# Altium integrated library adafruit.Library.IntLib: 666 symbols (part 1 of 6)
Pins are listed as number, name and electrical type; pins without a type are passive.

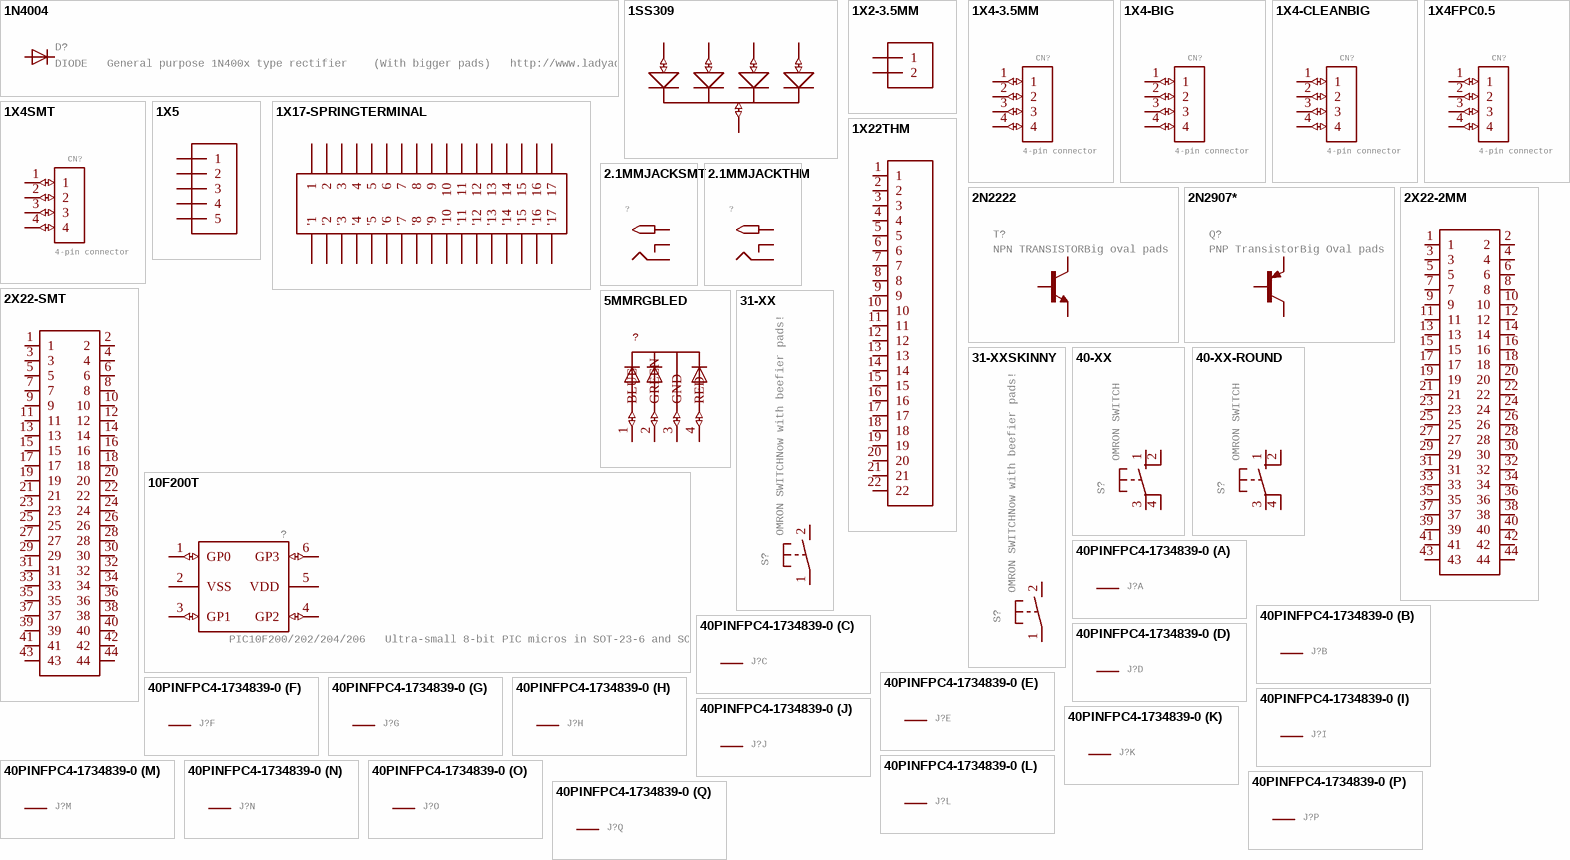
[diagram p0: symbols 1N4004 to 40PINFPC4-1734839-0]

## 1N4004
designator D?, comment DIODE   General purpose 1N400x type rectifier    (With bigger pads)   http://www.ladyada.net/library/pcb/eaglelibrary.html
GateName_1: 1; SymbolName_1: D; DeviceSetName: 1N4004; LibraryName: adafruit; Package: DO41-10
footprint DO41-10
pins: A, C

## 1SS309
designator D?
GateName_1: G$1; SymbolName_1: 1SS309; LibraryName: adafruit; DeviceSetName: 1SS309; Package: SOT23-5L
footprint SOT23-5L
pins: 1 A1 (io), 2 C (io), 3 A2 (io), 4 A3 (io), 5 A4 (io)

## 1X2-3.5MM
designator J?, comment 3.5mm Terminal block    http://www.ladyada.net/library/pcb/eaglelibrary.html  (value not drawn)
GateName_1: G$1; SymbolName_1: 1X2; DeviceName: -3.5MM; LibraryName: adafruit; DeviceSetName: 1X2; Package: 1X2-3.5MM
footprint 1X2-3.5MM
pins: 1, 2

## 1X4-3.5MM
designator CN?, comment 4-pin connector
GateName_1: G$1; SymbolName_1: 1X4; DeviceName: -3.5MM; LibraryName: adafruit; DeviceSetName: 1X4; Package: 1X04-3.5MM
footprint 1X04-3.5MM
pins: 1 (io), 2 (io), 3 (io), 4 (io)

## 1X4-BIG
designator CN?, comment 4-pin connector
GateName_1: G$1; SymbolName_1: 1X4; DeviceName: -BIG; LibraryName: adafruit; DeviceSetName: 1X4; Package: 1X04-BIG
footprint 1X04-BIG
pins: 1 (io), 2 (io), 3 (io), 4 (io)

## 1X4-CLEANBIG
designator CN?, comment 4-pin connector
GateName_1: G$1; SymbolName_1: 1X4; DeviceName: -CLEANBIG; LibraryName: adafruit; DeviceSetName: 1X4; Package: 1X04-CLEANBIG
footprint 1X04-CLEANBIG
pins: 1 (io), 2 (io), 3 (io), 4 (io)

## 1X4FPC0.5
designator CN?, comment 4-pin connector
GateName_1: G$1; SymbolName_1: 1X4; DeviceName: FPC0.5; LibraryName: adafruit; DeviceSetName: 1X4; Package: FPC_0.5MM-4
footprint FPC_0.5MM-4
pins: 1 (io), 2 (io), 3 (io), 4 (io)

## 1X4SMT
designator CN?, comment 4-pin connector
GateName_1: G$1; SymbolName_1: 1X4; DeviceName: SMT; LibraryName: adafruit; DeviceSetName: 1X4; Package: 1X4-SMT
footprint 1X4-SMT
pins: 1 (io), 2 (io), 3 (io), 4 (io)

## 1X5
designator J?
GateName_1: G$1; SymbolName_1: 1X5; LibraryName: adafruit; DeviceSetName: 1X5; Package: 1X05-3.5MM
footprint 1X05-3.5MM
pins: 1, 2, 3, 4, 5

## 1X17-SPRINGTERMINAL
designator Q?
GateName_1: G$1; SymbolName_1: SPRINGTERMININAL-1X17; DeviceSetName: 1X17-SPRINGTERMINAL; LibraryName: adafruit; Package: SPRINGTERMINAL-17
footprint SPRINGTERMINAL-17
pins: 1, 1' '1, 2, 2' '2, 3, 3' '3, 4, 4' '4, 5, 5' '5, 6, 6' '6, 7, 7' '7, 8, 8' '8, 9, 9' '9, 10, 10' '10, 11, 11' '11, 12, 12' '12, 13, 13' '13, 14, 14' '14, 15, 15' '15, 16, 16' '16, 17, 17' '17

## 1X22THM
designator ?
GateName_1: G$1; SymbolName_1: 1X22; DeviceName: THM; LibraryName: adafruit; DeviceSetName: 1X22; Package: 1X22
footprint 1X22
pins: 1 (io), 2 (io), 3 (io), 4 (io), 5 (io), 6 (io), 7 (io), 8 (io), 9 (io), 10 (io), 11 (io), 12 (io), 13 (io), 14 (io), 15 (io), 16 (io), 17 (io), 18 (io), 19 (io), 20 (io), 21 (io), 22 (io)

## 2.1MMJACKSMT
designator ?, comment 2.1mm x 5.5mm THM DC jack with internal switch. Digikey part #PJ-102A, 4UCON part #05537  2.1mm x 5.5mm SMT DC jack with internal switch. Digikey part #PJ-002A-SMT, 4UCON part #03267    By microbuilder.eu & adafruit.com  (value not drawn)
GateName_1: G$1; SymbolName_1: POWERJACK-1; DeviceSetName: 2.1MMJACK; DeviceName: SMT; LibraryName: adafruit; Package: DCJACK_2MM_SMT
footprint DCJACK_2MM_SMT
pins: GND RING (io), GNDBREAK RING_SW (io), PWR2 TIP (io)

## 2.1MMJACKTHM
designator ?, comment 2.1mm x 5.5mm THM DC jack with internal switch. Digikey part #PJ-102A, 4UCON part #05537  2.1mm x 5.5mm SMT DC jack with internal switch. Digikey part #PJ-002A-SMT, 4UCON part #03267    By microbuilder.eu & adafruit.com  (value not drawn)
GateName_1: G$1; SymbolName_1: POWERJACK-1; DeviceSetName: 2.1MMJACK; DeviceName: THM; LibraryName: adafruit; Package: PJ-102A
footprint PJ-102A
pins: RING (io), RING_SW (io), TIP (io)

## 2N2222
designator T?, comment NPN TRANSISTORBig oval pads
GateName_1: G$1; DeviceSetName: 2N2222; SymbolName_1: NPN; LibraryName: adafruit; Package: TO92-EBC-OVAL
footprint TO92-EBC-OVAL
pins: B, C, E

## 2N2907*
designator Q?, comment PNP TransistorBig Oval pads
GateName_1: G$1; DeviceSetName: 2N2907*; SymbolName_1: PNP; LibraryName: adafruit; Package: TO92-EBC-OVAL
footprint TO92-EBC-OVAL
pins: B, C, E

## 2X22-2MM
designator ?
GateName_1: G$1; SymbolName_1: 2X22; DeviceName: -2MM; LibraryName: adafruit; DeviceSetName: 2X22; Package: 2X22
footprint 2X22
pins: 1 (io), 2 (io), 3 (io), 4 (io), 5 (io), 6 (io), 7 (io), 8 (io), 9 (io), 10 (io), 11 (io), 12 (io), 13 (io), 14 (io), 15 (io), 16 (io), 17 (io), 18 (io), 19 (io), 20 (io), 21 (io), 22 (io), 23 (io), 24 (io), 25 (io), 26 (io), 27 (io), 28 (io), 29 (io), 30 (io), 31 (io), 32 (io), 33 (io), 34 (io), 35 (io), 36 (io), 37 (io), 38 (io), 39 (io), 40 (io), 41 (io), 42 (io), 43 (io), 44 (io)

## 2X22-SMT
designator ?
GateName_1: G$1; SymbolName_1: 2X22; DeviceName: -SMT; LibraryName: adafruit; DeviceSetName: 2X22; Package: 2X22-SMT
footprint 2X22-SMT
pins: 1 (io), 2 (io), 3 (io), 4 (io), 5 (io), 6 (io), 7 (io), 8 (io), 9 (io), 10 (io), 11 (io), 12 (io), 13 (io), 14 (io), 15 (io), 16 (io), 17 (io), 18 (io), 19 (io), 20 (io), 21 (io), 22 (io), 23 (io), 24 (io), 25 (io), 26 (io), 27 (io), 28 (io), 29 (io), 30 (io), 31 (io), 32 (io), 33 (io), 34 (io), 35 (io), 36 (io), 37 (io), 38 (io), 39 (io), 40 (io), 41 (io), 42 (io), 43 (io), 44 (io)

## 5MMRGBLED
designator ?
GateName_1: G$1; SymbolName_1: RGBLED_CC; DeviceSetName: 5MMRGBLED; LibraryName: adafruit; Package: LED5MMRGB
footprint LED5MMRGB
pins: 1 BLUE (io), 2 GREEN (io), 3 GND (io), 4 RED (io)

## 10F200T
designator ?, comment PIC10F200/202/204/206   Ultra-small 8-bit PIC micros in SOT-23-6 and SOIC
GateName_1: G$1; SymbolName_1: 10F200T; LibraryName: adafruit; DeviceSetName: 10F200T; Package: SOT23-6
footprint SOT23-6
pins: 1 GP0 (io), 2 VSS (power), 3 GP1 (io), 4 GP2 (io), 5 VDD (power), 6 GP3 (io)

## 31-XX
designator S?, comment OMRON SWITCHNow with beefier pads!
GateName_1: 1; SymbolName_1: TS; DeviceSetName: 31-XX; LibraryName: adafruit; Package: B3F-31XX
footprint B3F-31XX
pins: 1 P, 2 S

## 31-XXSKINNY
designator S?, comment OMRON SWITCHNow with beefier pads!
GateName_1: 1; SymbolName_1: TS; DeviceName: SKINNY; DeviceSetName: 31-XX; LibraryName: adafruit; Package: B3F-31XX-SKINNIER
footprint B3F-31XX-SKINNIER
pins: 1 P, 2 S

## 40-XX
designator S?, comment OMRON SWITCH
MPN: B3F-4000; GateName_1: 1; SymbolName_1: TS2; DeviceSetName: 40-XX; MF: OMRON COMPONENTS USA; LibraryName: adafruit; Package: B3F-40XX; OC_FARNELL: 176434; OC_NEWARK: 36K3105
footprint B3F-40XX
pins: 1 S, 2 S1, 3 P, 4 P1

## 40-XX-ROUND
designator S?, comment OMRON SWITCH
GateName_1: 1; SymbolName_1: TS2; DeviceName: -ROUND; DeviceSetName: 40-XX; LibraryName: adafruit; Package: B3F-40XX-ROUND
footprint B3F-40XX-ROUND
pins: 1 S, 2 S1, 3 P, 4 P1

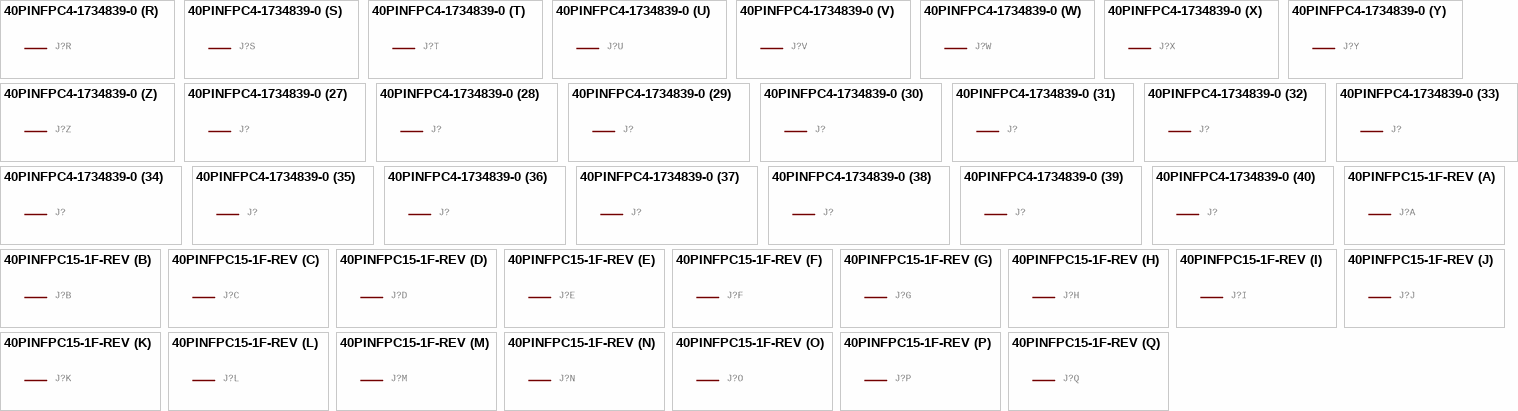
[diagram p1: symbols 40PINFPC4-1734839-0 to 40PINFPC15-1F-REV]

## 40PINFPC4-1734839-0
designator J?, comment OMRON FPC Connector   Source : http://www.omron.com/ecb/products/pdf/fpc.pdf    XF2M-4015-rev is good for connecting up 'PSP' SHARP LQ043 LCDs  (value not drawn)
GateName_1: -1; SymbolName_1: PV; GateName_2: -2; SymbolName_2: P; GateName_3: -3; GateName_4: -4; GateName_5: -5; GateName_6: -6; GateName_7: -7; GateName_8: -8; GateName_9: -9; GateName_10: -10; GateName_11: -11; GateName_12: -12; GateName_13: -13; GateName_14: -14; GateName_15: -15; GateName_16: -16; GateName_17: -17; GateName_18: -18; GateName_19: -19; GateName_20: -20; GateName_21: -21; GateName_22: -22; GateName_23: -23; GateName_24: -24; GateName_25: -25; GateName_26: -26; GateName_27: -27; GateName_28: -28; GateName_29: -29; GateName_30: -30; GateName_31: -31; GateName_32: -32; GateName_33: -33; GateName_34: -34; GateName_35: -35; GateName_36: -36; GateName_37: -37; GateName_38: -38; GateName_39: -39; GateName_40: -40; DeviceName: 4-1734839-0; DeviceSetName: 40PINFPC; SymbolName_3: P; SymbolName_4: P; SymbolName_5: P; SymbolName_6: P; SymbolName_7: P; SymbolName_8: P; SymbolName_9: P; SymbolName_10: P; SymbolName_11: P; SymbolName_12: P; SymbolName_13: P; SymbolName_14: P; SymbolName_15: P; SymbolName_16: P; SymbolName_17: P; SymbolName_18: P; SymbolName_19: P; SymbolName_20: P; SymbolName_21: P; SymbolName_22: P; SymbolName_23: P; SymbolName_24: P; SymbolName_25: P; SymbolName_26: P; SymbolName_27: P; SymbolName_28: P; SymbolName_29: P; SymbolName_30: P; SymbolName_31: P; SymbolName_32: P; SymbolName_33: P; SymbolName_34: P; SymbolName_35: P; SymbolName_36: P; SymbolName_37: P; SymbolName_38: P; SymbolName_39: P; SymbolName_40: P; LibraryName: adafruit; Package: 4-1734839-0
footprint 4-1734839-0
part A pins: 1 MSV
part B pins: 2 MS
part C pins: 3 MS
part D pins: 4 MS
part E pins: 5 MS
part F pins: 6 MS
part G pins: 7 MS
part H pins: 8 MS
part I pins: 9 MS
part J pins: 10 MS
part K pins: 11 MS
part L pins: 12 MS
part M pins: 13 MS
part N pins: 14 MS
part O pins: 15 MS
part P pins: 16 MS
part Q pins: 17 MS
part R pins: 18 MS
part S pins: 19 MS
part T pins: 20 MS
part U pins: 21 MS
part V pins: 22 MS
part W pins: 23 MS
part X pins: 24 MS
part Y pins: 25 MS
part Z pins: 26 MS
part 27 pins: 27 MS
part 28 pins: 28 MS
part 29 pins: 29 MS
part 30 pins: 30 MS
part 31 pins: 31 MS
part 32 pins: 32 MS
part 33 pins: 33 MS
part 34 pins: 34 MS
part 35 pins: 35 MS
part 36 pins: 36 MS
part 37 pins: 37 MS
part 38 pins: 38 MS
part 39 pins: 39 MS
part 40 pins: 40 MS

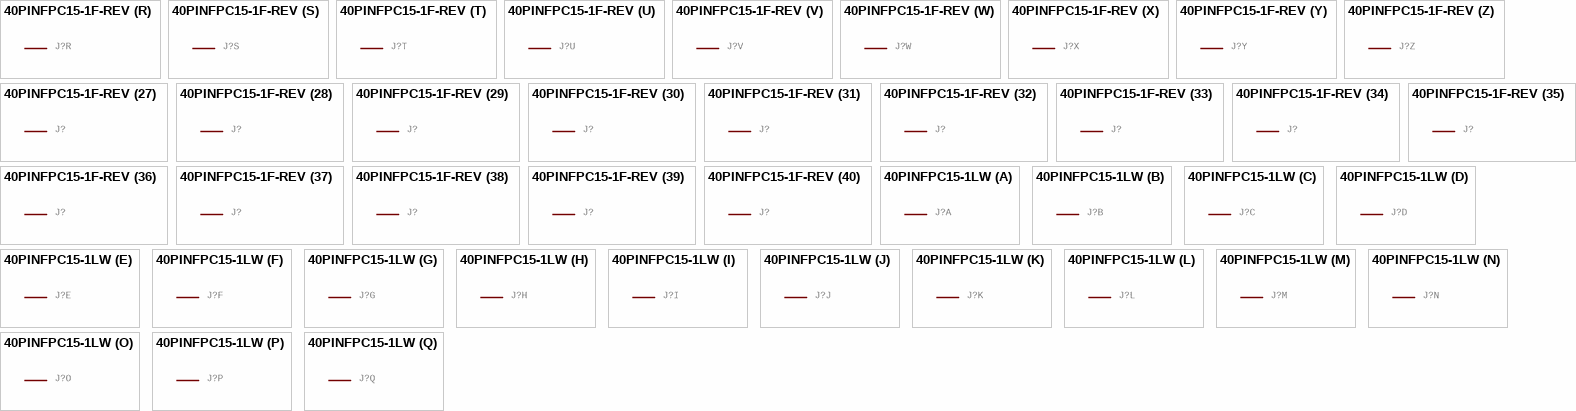
[diagram p2: symbols 40PINFPC15-1F-REV to 40PINFPC15-1LW]

## 40PINFPC15-1F-REV
designator J?, comment OMRON FPC Connector   Source : http://www.omron.com/ecb/products/pdf/fpc.pdf    XF2M-4015-rev is good for connecting up 'PSP' SHARP LQ043 LCDs  (value not drawn)
GateName_1: -1; SymbolName_1: PV; GateName_2: -2; SymbolName_2: P; GateName_3: -3; GateName_4: -4; GateName_5: -5; GateName_6: -6; GateName_7: -7; GateName_8: -8; GateName_9: -9; GateName_10: -10; GateName_11: -11; GateName_12: -12; GateName_13: -13; GateName_14: -14; GateName_15: -15; GateName_16: -16; GateName_17: -17; GateName_18: -18; GateName_19: -19; GateName_20: -20; GateName_21: -21; GateName_22: -22; GateName_23: -23; GateName_24: -24; GateName_25: -25; GateName_26: -26; GateName_27: -27; GateName_28: -28; GateName_29: -29; GateName_30: -30; GateName_31: -31; GateName_32: -32; GateName_33: -33; GateName_34: -34; GateName_35: -35; GateName_36: -36; GateName_37: -37; GateName_38: -38; GateName_39: -39; GateName_40: -40; DeviceName: 15-1F-REV; DeviceSetName: 40PINFPC; SymbolName_3: P; SymbolName_4: P; SymbolName_5: P; SymbolName_6: P; SymbolName_7: P; SymbolName_8: P; SymbolName_9: P; SymbolName_10: P; SymbolName_11: P; SymbolName_12: P; SymbolName_13: P; SymbolName_14: P; SymbolName_15: P; SymbolName_16: P; SymbolName_17: P; SymbolName_18: P; SymbolName_19: P; SymbolName_20: P; SymbolName_21: P; SymbolName_22: P; SymbolName_23: P; SymbolName_24: P; SymbolName_25: P; SymbolName_26: P; SymbolName_27: P; SymbolName_28: P; SymbolName_29: P; SymbolName_30: P; SymbolName_31: P; SymbolName_32: P; SymbolName_33: P; SymbolName_34: P; SymbolName_35: P; SymbolName_36: P; SymbolName_37: P; SymbolName_38: P; SymbolName_39: P; SymbolName_40: P; LibraryName: adafruit; Package: XF2M-4015-1F-REVERSE
footprint XF2M-4015-1F-REVERSE
part A pins: 1 MSV
part B pins: 2 MS
part C pins: 3 MS
part D pins: 4 MS
part E pins: 5 MS
part F pins: 6 MS
part G pins: 7 MS
part H pins: 8 MS
part I pins: 9 MS
part J pins: 10 MS
part K pins: 11 MS
part L pins: 12 MS
part M pins: 13 MS
part N pins: 14 MS
part O pins: 15 MS
part P pins: 16 MS
part Q pins: 17 MS
part R pins: 18 MS
part S pins: 19 MS
part T pins: 20 MS
part U pins: 21 MS
part V pins: 22 MS
part W pins: 23 MS
part X pins: 24 MS
part Y pins: 25 MS
part Z pins: 26 MS
part 27 pins: 27 MS
part 28 pins: 28 MS
part 29 pins: 29 MS
part 30 pins: 30 MS
part 31 pins: 31 MS
part 32 pins: 32 MS
part 33 pins: 33 MS
part 34 pins: 34 MS
part 35 pins: 35 MS
part 36 pins: 36 MS
part 37 pins: 37 MS
part 38 pins: 38 MS
part 39 pins: 39 MS
part 40 pins: 40 MS

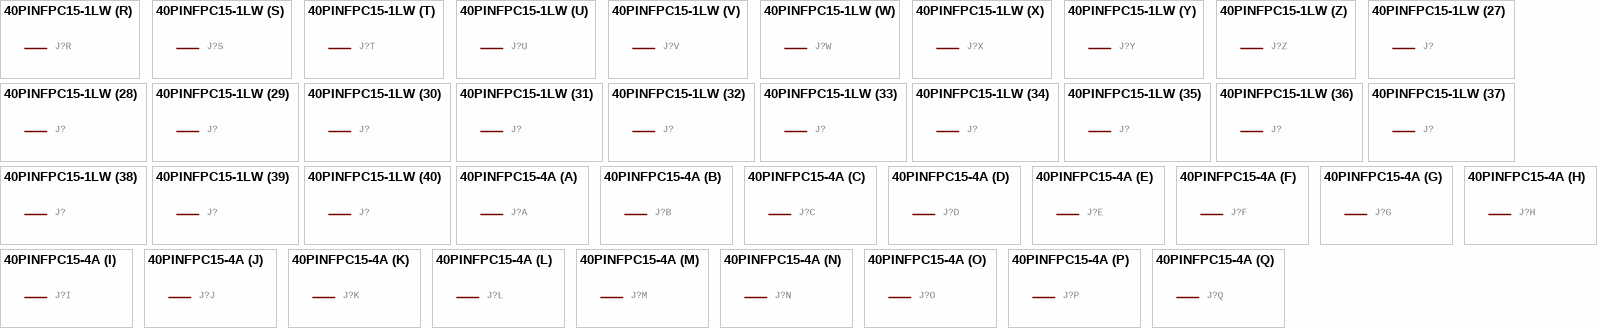
[diagram p3: symbols 40PINFPC15-1LW to 40PINFPC15-4A]

## 40PINFPC15-1LW
designator J?, comment OMRON FPC Connector   Source : http://www.omron.com/ecb/products/pdf/fpc.pdf    XF2M-4015-rev is good for connecting up 'PSP' SHARP LQ043 LCDs  (value not drawn)
GateName_1: -1; SymbolName_1: PV; GateName_2: -2; SymbolName_2: P; GateName_3: -3; GateName_4: -4; GateName_5: -5; GateName_6: -6; GateName_7: -7; GateName_8: -8; GateName_9: -9; GateName_10: -10; GateName_11: -11; GateName_12: -12; GateName_13: -13; GateName_14: -14; GateName_15: -15; GateName_16: -16; GateName_17: -17; GateName_18: -18; GateName_19: -19; GateName_20: -20; GateName_21: -21; GateName_22: -22; GateName_23: -23; GateName_24: -24; GateName_25: -25; GateName_26: -26; GateName_27: -27; GateName_28: -28; GateName_29: -29; GateName_30: -30; GateName_31: -31; GateName_32: -32; GateName_33: -33; GateName_34: -34; GateName_35: -35; GateName_36: -36; GateName_37: -37; GateName_38: -38; GateName_39: -39; GateName_40: -40; DeviceName: 15-1LW; DeviceSetName: 40PINFPC; SymbolName_3: P; SymbolName_4: P; SymbolName_5: P; SymbolName_6: P; SymbolName_7: P; SymbolName_8: P; SymbolName_9: P; SymbolName_10: P; SymbolName_11: P; SymbolName_12: P; SymbolName_13: P; SymbolName_14: P; SymbolName_15: P; SymbolName_16: P; SymbolName_17: P; SymbolName_18: P; SymbolName_19: P; SymbolName_20: P; SymbolName_21: P; SymbolName_22: P; SymbolName_23: P; SymbolName_24: P; SymbolName_25: P; SymbolName_26: P; SymbolName_27: P; SymbolName_28: P; SymbolName_29: P; SymbolName_30: P; SymbolName_31: P; SymbolName_32: P; SymbolName_33: P; SymbolName_34: P; SymbolName_35: P; SymbolName_36: P; SymbolName_37: P; SymbolName_38: P; SymbolName_39: P; SymbolName_40: P; LibraryName: adafruit; Package: XF2H-4015-1LW
footprint XF2H-4015-1LW
part A pins: 1 MSV
part B pins: 2 MS
part C pins: 3 MS
part D pins: 4 MS
part E pins: 5 MS
part F pins: 6 MS
part G pins: 7 MS
part H pins: 8 MS
part I pins: 9 MS
part J pins: 10 MS
part K pins: 11 MS
part L pins: 12 MS
part M pins: 13 MS
part N pins: 14 MS
part O pins: 15 MS
part P pins: 16 MS
part Q pins: 17 MS
part R pins: 18 MS
part S pins: 19 MS
part T pins: 20 MS
part U pins: 21 MS
part V pins: 22 MS
part W pins: 23 MS
part X pins: 24 MS
part Y pins: 25 MS
part Z pins: 26 MS
part 27 pins: 27 MS
part 28 pins: 28 MS
part 29 pins: 29 MS
part 30 pins: 30 MS
part 31 pins: 31 MS
part 32 pins: 32 MS
part 33 pins: 33 MS
part 34 pins: 34 MS
part 35 pins: 35 MS
part 36 pins: 36 MS
part 37 pins: 37 MS
part 38 pins: 38 MS
part 39 pins: 39 MS
part 40 pins: 40 MS

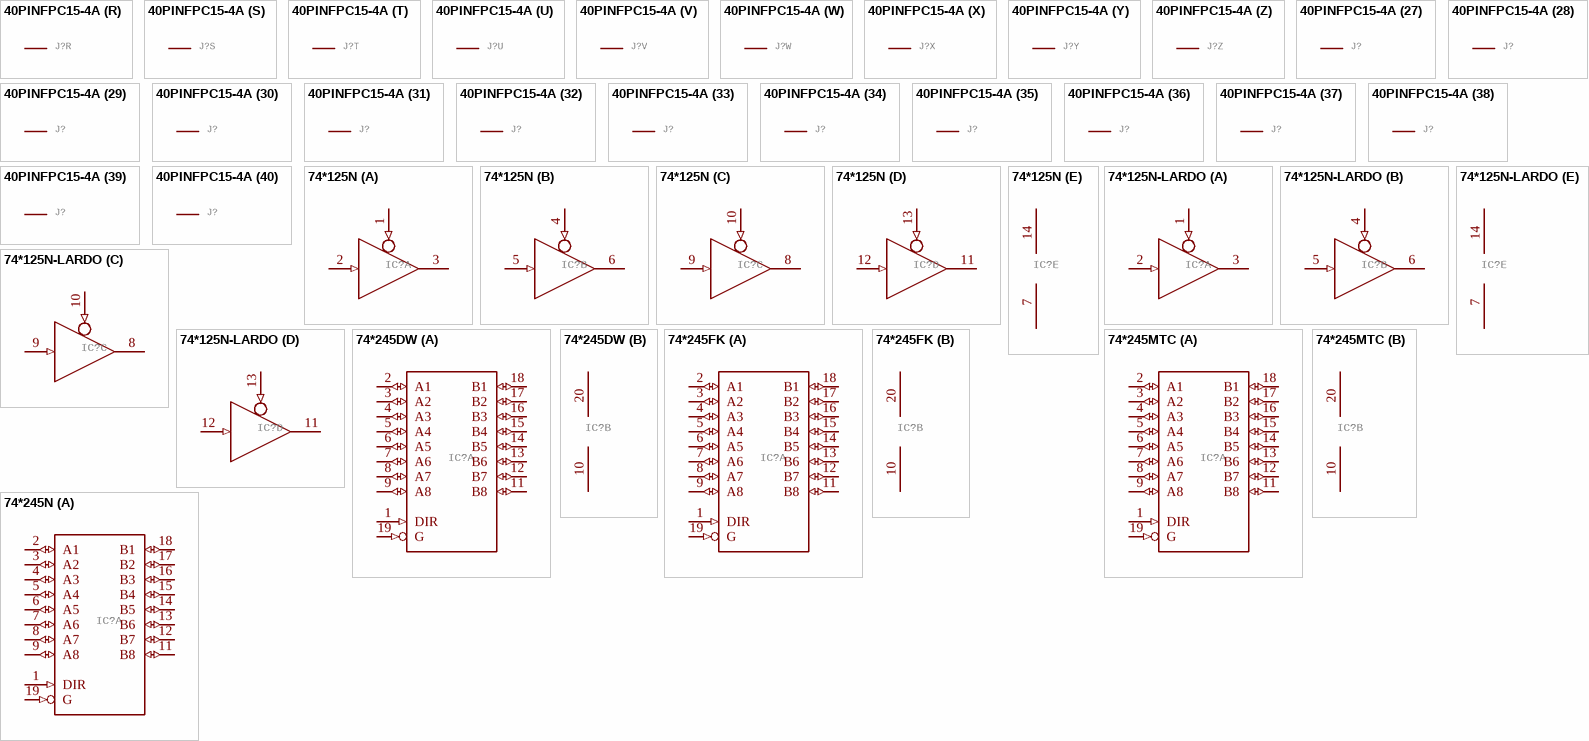
[diagram p4: symbols 40PINFPC15-4A to 74*245N]

## 40PINFPC15-4A
designator J?, comment OMRON FPC Connector   Source : http://www.omron.com/ecb/products/pdf/fpc.pdf    XF2M-4015-rev is good for connecting up 'PSP' SHARP LQ043 LCDs  (value not drawn)
GateName_1: -1; SymbolName_1: PV; GateName_2: -2; SymbolName_2: P; GateName_3: -3; GateName_4: -4; GateName_5: -5; GateName_6: -6; GateName_7: -7; GateName_8: -8; GateName_9: -9; GateName_10: -10; GateName_11: -11; GateName_12: -12; GateName_13: -13; GateName_14: -14; GateName_15: -15; GateName_16: -16; GateName_17: -17; GateName_18: -18; GateName_19: -19; GateName_20: -20; GateName_21: -21; GateName_22: -22; GateName_23: -23; GateName_24: -24; GateName_25: -25; GateName_26: -26; GateName_27: -27; GateName_28: -28; GateName_29: -29; GateName_30: -30; GateName_31: -31; GateName_32: -32; GateName_33: -33; GateName_34: -34; GateName_35: -35; GateName_36: -36; GateName_37: -37; GateName_38: -38; GateName_39: -39; GateName_40: -40; DeviceName: 15-4A; DeviceSetName: 40PINFPC; SymbolName_3: P; SymbolName_4: P; SymbolName_5: P; SymbolName_6: P; SymbolName_7: P; SymbolName_8: P; SymbolName_9: P; SymbolName_10: P; SymbolName_11: P; SymbolName_12: P; SymbolName_13: P; SymbolName_14: P; SymbolName_15: P; SymbolName_16: P; SymbolName_17: P; SymbolName_18: P; SymbolName_19: P; SymbolName_20: P; SymbolName_21: P; SymbolName_22: P; SymbolName_23: P; SymbolName_24: P; SymbolName_25: P; SymbolName_26: P; SymbolName_27: P; SymbolName_28: P; SymbolName_29: P; SymbolName_30: P; SymbolName_31: P; SymbolName_32: P; SymbolName_33: P; SymbolName_34: P; SymbolName_35: P; SymbolName_36: P; SymbolName_37: P; SymbolName_38: P; SymbolName_39: P; SymbolName_40: P; LibraryName: adafruit; Package: XF2R-4015-4A
footprint XF2R-4015-4A
part A pins: 1 MSV
part B pins: 2 MS
part C pins: 3 MS
part D pins: 4 MS
part E pins: 5 MS
part F pins: 6 MS
part G pins: 7 MS
part H pins: 8 MS
part I pins: 9 MS
part J pins: 10 MS
part K pins: 11 MS
part L pins: 12 MS
part M pins: 13 MS
part N pins: 14 MS
part O pins: 15 MS
part P pins: 16 MS
part Q pins: 17 MS
part R pins: 18 MS
part S pins: 19 MS
part T pins: 20 MS
part U pins: 21 MS
part V pins: 22 MS
part W pins: 23 MS
part X pins: 24 MS
part Y pins: 25 MS
part Z pins: 26 MS
part 27 pins: 27 MS
part 28 pins: 28 MS
part 29 pins: 29 MS
part 30 pins: 30 MS
part 31 pins: 31 MS
part 32 pins: 32 MS
part 33 pins: 33 MS
part 34 pins: 34 MS
part 35 pins: 35 MS
part 36 pins: 36 MS
part 37 pins: 37 MS
part 38 pins: 38 MS
part 39 pins: 39 MS
part 40 pins: 40 MS

## 74*125N
designator IC?, comment Quad bus BUFFER, 3-state  (value not drawn)
GateName_1: A; SymbolName_1: 74125; GateName_2: B; GateName_3: C; GateName_4: D; GateName_5: P; SymbolName_5: PWRN; DeviceName: N; DeviceSetName: 74*125; SymbolName_2: 74125; SymbolName_3: 74125; SymbolName_4: 74125; LibraryName: adafruit; Package: DIL14
footprint DIL14
part A pins: 1 OE (in), 2 I (in), 3 O (hiz)
part B pins: 4 OE (in), 5 I (in), 6 O (hiz)
part C pins: 8 O (hiz), 9 I (in), 10 OE (in)
part D pins: 11 O (hiz), 12 I (in), 13 OE (in)
part E pins: 7 GND (power), 14 VCC (power)

## 74*125N-LARDO
designator IC?, comment Quad bus BUFFER, 3-state  (value not drawn)
GateName_1: A; SymbolName_1: 74125; GateName_2: B; GateName_3: C; GateName_4: D; GateName_5: P; SymbolName_5: PWRN; DeviceName: N-LARDO; DeviceSetName: 74*125; SymbolName_2: 74125; SymbolName_3: 74125; SymbolName_4: 74125; LibraryName: adafruit; Package: DIL14-LARDO
footprint DIL14-LARDO
part A pins: 1 OE (in), 2 I (in), 3 O (hiz)
part B pins: 4 OE (in), 5 I (in), 6 O (hiz)
part C pins: 8 O (hiz), 9 I (in), 10 OE (in)
part D pins: 11 O (hiz), 12 I (in), 13 OE (in)
part E pins: 7 GND (power), 14 VCC (power)

## 74*245DW
designator IC?, comment Octal BUS TRANSCEIVER, 3-state  (value not drawn)
GateName_1: A; SymbolName_1: 74245; GateName_2: P; SymbolName_2: PWRN; DeviceName: DW; DeviceSetName: 74*245; LibraryName: adafruit; Package: SO20W
footprint SO20W
part A pins: 1 DIR (in), 2 A1 (io), 3 A2 (io), 4 A3 (io), 5 A4 (io), 6 A5 (io), 7 A6 (io), 8 A7 (io), 9 A8 (io), 11 B8 (io), 12 B7 (io), 13 B6 (io), 14 B5 (io), 15 B4 (io), 16 B3 (io), 17 B2 (io), 18 B1 (io), 19 G (in)
part B pins: 10 GND (power), 20 VCC (power)

## 74*245FK
designator IC?, comment Octal BUS TRANSCEIVER, 3-state  (value not drawn)
GateName_1: A; SymbolName_1: 74245; GateName_2: P; SymbolName_2: PWRN; DeviceName: FK; DeviceSetName: 74*245; LibraryName: adafruit; Package: LCC20
footprint LCC20
part A pins: 1 DIR (in), 2 A1 (io), 3 A2 (io), 4 A3 (io), 5 A4 (io), 6 A5 (io), 7 A6 (io), 8 A7 (io), 9 A8 (io), 11 B8 (io), 12 B7 (io), 13 B6 (io), 14 B5 (io), 15 B4 (io), 16 B3 (io), 17 B2 (io), 18 B1 (io), 19 G (in)
part B pins: 10 GND (power), 20 VCC (power)

## 74*245MTC
designator IC?, comment Octal BUS TRANSCEIVER, 3-state  (value not drawn)
GateName_1: A; SymbolName_1: 74245; GateName_2: P; SymbolName_2: PWRN; DeviceName: MTC; DeviceSetName: 74*245; LibraryName: adafruit; Package: SSOP20
footprint SSOP20
part A pins: 1 DIR (in), 2 A1 (io), 3 A2 (io), 4 A3 (io), 5 A4 (io), 6 A5 (io), 7 A6 (io), 8 A7 (io), 9 A8 (io), 11 B8 (io), 12 B7 (io), 13 B6 (io), 14 B5 (io), 15 B4 (io), 16 B3 (io), 17 B2 (io), 18 B1 (io), 19 G (in)
part B pins: 10 GND (power), 20 VCC (power)

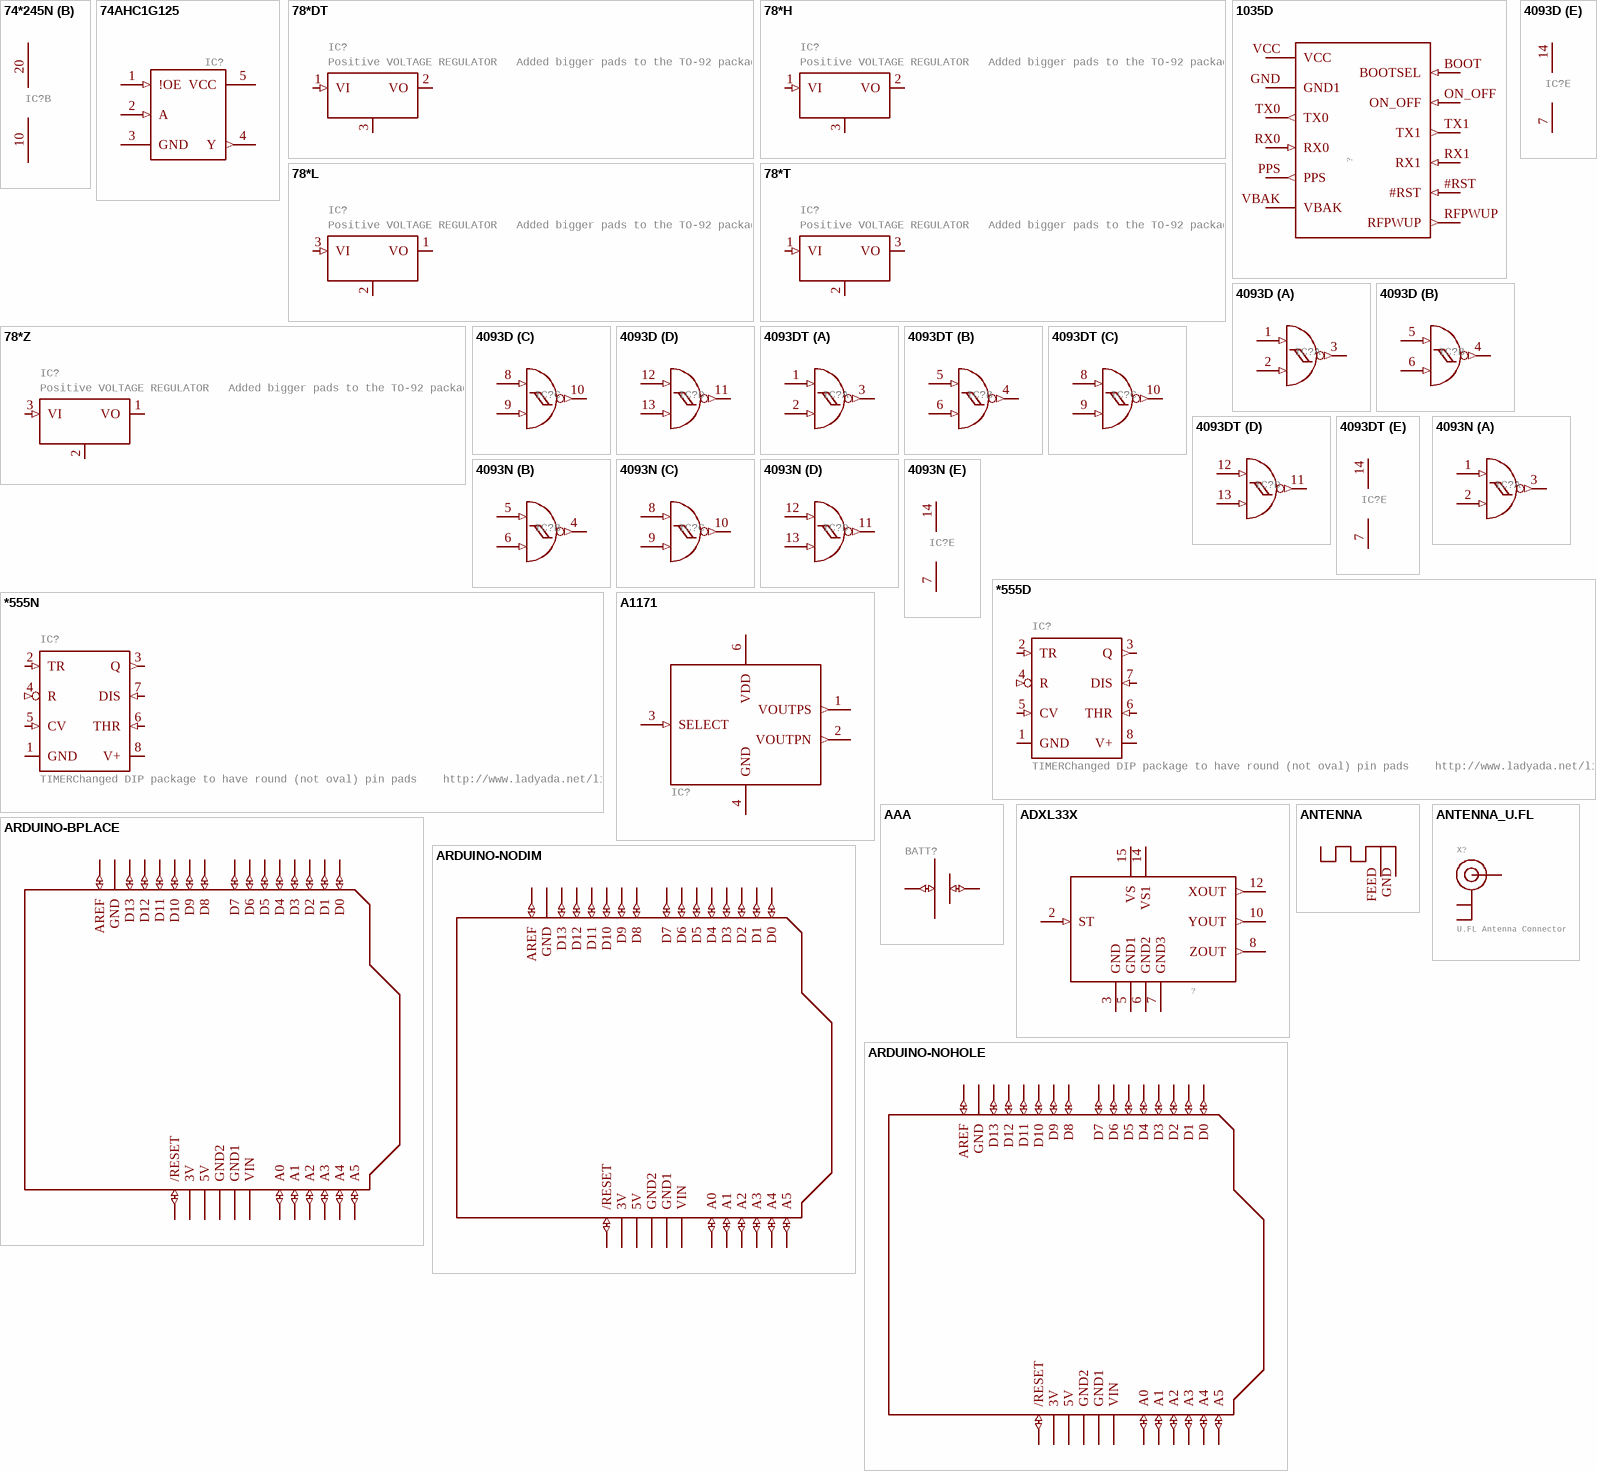
[diagram p5: symbols 74*245N to ARDUINO-NOHOLE]

## 74*245N
designator IC?, comment Octal BUS TRANSCEIVER, 3-state  (value not drawn)
GateName_1: A; SymbolName_1: 74245; GateName_2: P; SymbolName_2: PWRN; DeviceName: N; DeviceSetName: 74*245; LibraryName: adafruit; Package: DIL20
footprint DIL20
part A pins: 1 DIR (in), 2 A1 (io), 3 A2 (io), 4 A3 (io), 5 A4 (io), 6 A5 (io), 7 A6 (io), 8 A7 (io), 9 A8 (io), 11 B8 (io), 12 B7 (io), 13 B6 (io), 14 B5 (io), 15 B4 (io), 16 B3 (io), 17 B2 (io), 18 B1 (io), 19 G (in)
part B pins: 10 GND (power), 20 VCC (power)

## 74AHC1G125
designator IC?
GateName_1: G$1; SymbolName_1: 74AHC1G125; LibraryName: adafruit; DeviceSetName: 74AHC1G125; Package: SOT23-5L
footprint SOT23-5L
pins: 1 !OE (in), 2 A (in), 3 GND (power), 4 Y (out), 5 VCC (power)

## 78*DT
designator IC?, comment Positive VOLTAGE REGULATOR   Added bigger pads to the TO-92 package
GateName_1: A1; SymbolName_1: 78XX; DeviceName: DT; DeviceSetName: 78*; LibraryName: adafruit; Package: TO252
footprint TO252
pins: 1 VI (in), 2 VO, 3 GND

## 78*H
designator IC?, comment Positive VOLTAGE REGULATOR   Added bigger pads to the TO-92 package
GateName_1: A1; SymbolName_1: 78XX; DeviceName: H; DeviceSetName: 78*; LibraryName: adafruit; Package: TO39
footprint TO39
pins: 1 VI (in), 2 VO, 3 GND

## 78*L
designator IC?, comment Positive VOLTAGE REGULATOR   Added bigger pads to the TO-92 package
GateName_1: A1; SymbolName_1: 78XX; DeviceName: L; DeviceSetName: 78*; LibraryName: adafruit; Package: TO92
footprint TO92
pins: 1 VO, 2 GND, 3 VI (in)

## 78*T
designator IC?, comment Positive VOLTAGE REGULATOR   Added bigger pads to the TO-92 package
GateName_1: A1; SymbolName_1: 78XX; DeviceName: T; DeviceSetName: 78*; LibraryName: adafruit; Package: TO220H
footprint TO220H
pins: 1 VI (in), 2 GND, 3 VO

## 78*Z
designator IC?, comment Positive VOLTAGE REGULATOR   Added bigger pads to the TO-92 package
GateName_1: A1; SymbolName_1: 78XX; DeviceName: Z; DeviceSetName: 78*; LibraryName: adafruit; Package: TO92
footprint TO92
pins: 1 VO, 2 GND, 3 VI (in)

## 1035D
designator ?
GateName_1: G$1; SymbolName_1: 1035D; LibraryName: adafruit; DeviceSetName: 1035D; Package: 1035D
footprint 1035D
pins: #RST (in), BOOT BOOTSEL (in), GND GND1 (power), ON_OFF (in), PPS (out), RFPWUP (out), RX0 (in), RX1 (in), TX0 (out), TX1 (out), VBAK (power), VCC (power)

## 4093D
designator IC?, comment Quad 2-input NAND schmitt trigger  (value not drawn)
GateName_1: A; SymbolName_1: 4093; GateName_2: B; GateName_3: C; GateName_4: D; GateName_5: P; SymbolName_5: PWRN-1; SymbolName_2: 4093; SymbolName_3: 4093; SymbolName_4: 4093; DeviceName: D; LibraryName: adafruit; DeviceSetName: 4093; Package: SO14
footprint SO14
part A pins: 1 I0 (in), 2 I1 (in), 3 O (out)
part B pins: 4 O (out), 5 I0 (in), 6 I1 (in)
part C pins: 8 I0 (in), 9 I1 (in), 10 O (out)
part D pins: 11 O (out), 12 I0 (in), 13 I1 (in)
part E pins: 7 VSS (power), 14 VDD (power)

## 4093DT
designator IC?, comment Quad 2-input NAND schmitt trigger  (value not drawn)
GateName_1: A; SymbolName_1: 4093; GateName_2: B; GateName_3: C; GateName_4: D; GateName_5: P; SymbolName_5: PWRN-1; DeviceName: DT; SymbolName_2: 4093; SymbolName_3: 4093; SymbolName_4: 4093; LibraryName: adafruit; DeviceSetName: 4093; Package: MC14093B-TSSOP14
footprint MC14093B-TSSOP14
part A pins: 1 I0 (in), 2 I1 (in), 3 O (out)
part B pins: 4 O (out), 5 I0 (in), 6 I1 (in)
part C pins: 8 I0 (in), 9 I1 (in), 10 O (out)
part D pins: 11 O (out), 12 I0 (in), 13 I1 (in)
part E pins: 7 VSS (power), 14 VDD (power)

## 4093N
designator IC?, comment Quad 2-input NAND schmitt trigger  (value not drawn)
GateName_1: A; SymbolName_1: 4093; GateName_2: B; GateName_3: C; GateName_4: D; GateName_5: P; SymbolName_5: PWRN-1; DeviceName: N; SymbolName_2: 4093; SymbolName_3: 4093; SymbolName_4: 4093; LibraryName: adafruit; DeviceSetName: 4093; Package: DIL14
footprint DIL14
part A pins: 1 I0 (in), 2 I1 (in), 3 O (out)
part B pins: 4 O (out), 5 I0 (in), 6 I1 (in)
part C pins: 8 I0 (in), 9 I1 (in), 10 O (out)
part D pins: 11 O (out), 12 I0 (in), 13 I1 (in)
part E pins: 7 VSS (power), 14 VDD (power)

## *555D
designator IC?, comment TIMERChanged DIP package to have round (not oval) pin pads    http://www.ladyada.net/library/pcb/eaglelibrary.html
GateName_1: A; SymbolName_1: 555; DeviceName: D; DeviceSetName: *555; LibraryName: adafruit; Package: SO08
footprint SO08
pins: 1 GND (power), 2 TR (in), 3 Q (out), 4 R (in), 5 CV (in), 6 THR (in), 7 DIS (in), 8 V+ (power)

## *555N
designator IC?, comment TIMERChanged DIP package to have round (not oval) pin pads    http://www.ladyada.net/library/pcb/eaglelibrary.html
GateName_1: A; SymbolName_1: 555; DeviceName: N; DeviceSetName: *555; LibraryName: adafruit; Package: DIL08-ROUND
footprint DIL08-ROUND
pins: 1 GND (power), 2 TR (in), 3 Q (out), 4 R (in), 5 CV (in), 6 THR (in), 7 DIS (in), 8 V+ (power)

## A1171
designator IC?, comment A1171 Allegro push-pull hall effect sensor  (value not drawn)
GateName_1: G$1; SymbolName_1: A1171; LibraryName: adafruit; DeviceSetName: A1171; Package: DFN-6
footprint DFN-6
pins: 1 VOUTPS (out), 2 VOUTPN (out), 3 SELECT (in), 4 GND (power), 6 VDD (power)

## AAA
designator BATT?, comment AAA PC pin holder   Mouser part #12BH412 - but pretty much any 1x AAA battery holder should be the same    http://www.ladyada.net/library/pcb/eaglelibrary.html  (value not drawn)
GateName_1: G$1; SymbolName_1: AAA; LibraryName: adafruit; DeviceSetName: AAA; Package: 12BH412
footprint 12BH412
pins: + (io), - (io)

## ADXL33X
designator ?
GateName_1: G$1; SymbolName_1: ADXL33X; LibraryName: adafruit; DeviceSetName: ADXL33X; Package: 16LCSP
footprint 16LCSP
pins: 2 ST (in), 3 GND (power), 5 GND1 (power), 6 GND2 (power), 7 GND3 (power), 8 ZOUT (out), 10 YOUT (out), 12 XOUT (out), 14 VS1 (power), 15 VS (power)

## ANTENNA
designator ANT?
GateName_1: G$1; SymbolName_1: ANT; DeviceSetName: ANTENNA; LibraryName: adafruit; Package: RN-ANT
footprint RN-ANT
pins: FEED, GND

## ANTENNA_U.FL
designator X?, comment U.FL Antenna Connector
GateName_1: G$1; DeviceSetName: ANTENNA_U.FL; SymbolName_1: U.FL; LibraryName: adafruit; Package: U.FL
footprint U.FL
pins: 1 GND@0, 2 GND@1, 3 SIGNAL

## ARDUINO-BPLACE
designator ?, comment Arduino Diecimila/Duemilanove   Make a shield with ease, this package has all the named pins as well as the two mounting drill holes and an outline of the USB and DC power connector. The outline is on the DIMENSION layer, so if your board house uses it they will cut the outline to match.    http://www.ladyada.net/library/pcb/eaglelibrary.html  (value not drawn)
GateName_1: G$1; DeviceName: -BPLACE; SymbolName_1: ARDUINO; LibraryName: adafruit; DeviceSetName: ARDUINO; Package: ARDUINO-BPLACE
footprint ARDUINO-BPLACE
pins: 3V (power), 5V (power), A0 (io), A1 (io), A2 (io), A3 (io), A4 (io), A5 (io), AREF (io), D0 (io), D1 (io), D2 (io), D3 (io), D4 (io), D5 (io), D6 (io), D7 (io), D8 (io), D9 (io), D10 (io), D11 (io), D12 (io), D13 (io), GND (power), GND1 (power), GND2 (power), RESET /RESET (io), VIN (power)

## ARDUINO-NODIM
designator ?, comment Arduino Diecimila/Duemilanove   Make a shield with ease, this package has all the named pins as well as the two mounting drill holes and an outline of the USB and DC power connector. The outline is on the DIMENSION layer, so if your board house uses it they will cut the outline to match.    http://www.ladyada.net/library/pcb/eaglelibrary.html  (value not drawn)
GateName_1: G$1; DeviceName: -NODIM; SymbolName_1: ARDUINO; LibraryName: adafruit; DeviceSetName: ARDUINO; Package: ARDUINO-NODIM
footprint ARDUINO-NODIM
pins: 3V (power), 5V (power), A0 (io), A1 (io), A2 (io), A3 (io), A4 (io), A5 (io), AREF (io), D0 (io), D1 (io), D2 (io), D3 (io), D4 (io), D5 (io), D6 (io), D7 (io), D8 (io), D9 (io), D10 (io), D11 (io), D12 (io), D13 (io), GND (power), GND1 (power), GND2 (power), RESET /RESET (io), VIN (power)

## ARDUINO-NOHOLE
designator ?, comment Arduino Diecimila/Duemilanove   Make a shield with ease, this package has all the named pins as well as the two mounting drill holes and an outline of the USB and DC power connector. The outline is on the DIMENSION layer, so if your board house uses it they will cut the outline to match.    http://www.ladyada.net/library/pcb/eaglelibrary.html  (value not drawn)
GateName_1: G$1; DeviceName: -NOHOLE; SymbolName_1: ARDUINO; LibraryName: adafruit; DeviceSetName: ARDUINO; Package: ARDUINO-NOHOLE
footprint ARDUINO-NOHOLE
pins: 3V (power), 5V (power), A0 (io), A1 (io), A2 (io), A3 (io), A4 (io), A5 (io), AREF (io), D0 (io), D1 (io), D2 (io), D3 (io), D4 (io), D5 (io), D6 (io), D7 (io), D8 (io), D9 (io), D10 (io), D11 (io), D12 (io), D13 (io), GND (power), GND1 (power), GND2 (power), RESET /RESET (io), VIN (power)

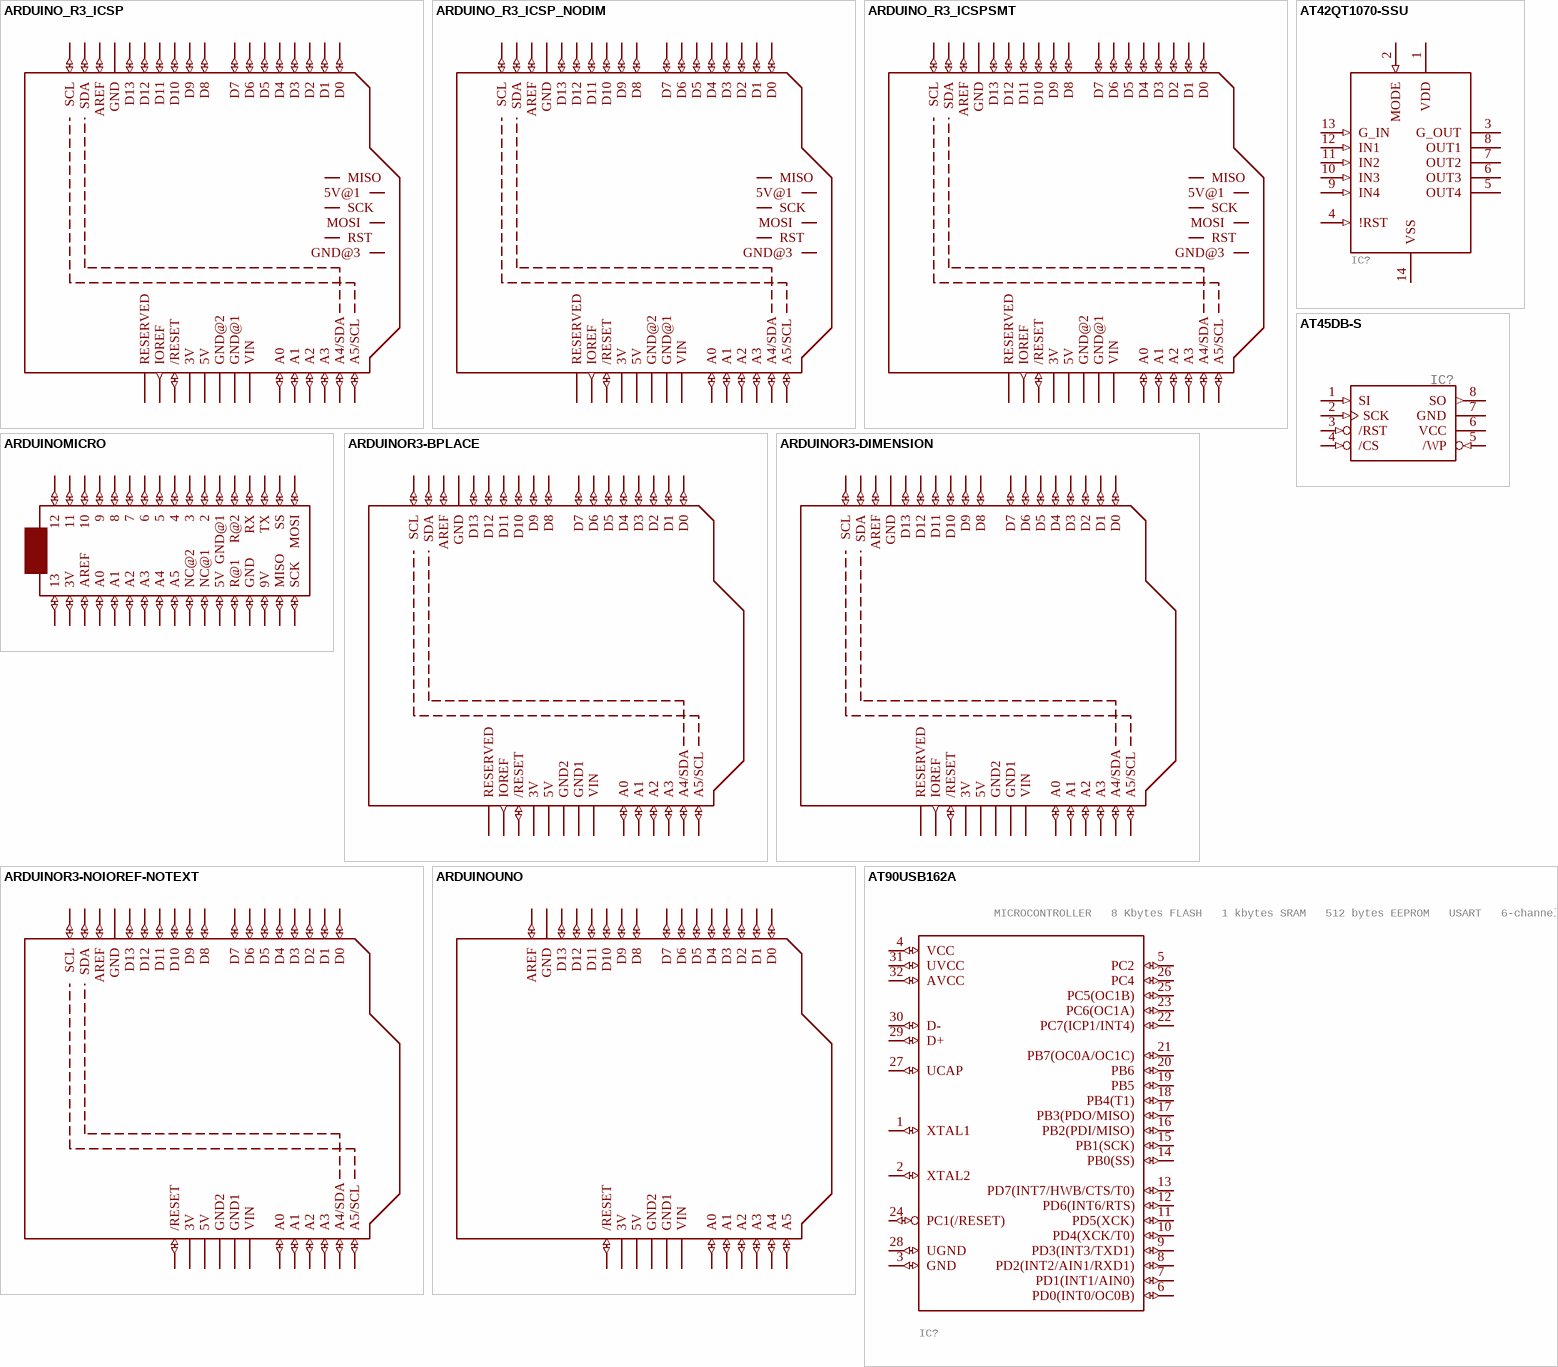
[diagram p6: symbols ARDUINO_R3_ICSP to AT90USB162A]

## ARDUINO_R3_ICSP
designator M?
GateName_1: G$1; SymbolName_1: ARDUINOR3-ICSP; DeviceSetName: ARDUINO_R3_ICSP; LibraryName: adafruit; Package: ARDUINOR3_ICSP
footprint ARDUINOR3_ICSP
pins: 3V (power), 5V (power), 5V_ICSP 5V@1, A0 (io), A1 (io), A2 (io), A3 (io), A4 A4/SDA (io), A5 A5/SCL (io), AREF (io), D0 (io), D1 (io), D2 (io), D3 (io), D4 (io), D5 (io), D6 (io), D7 (io), D8 (io), D9 (io), D10 (io), D11 (io), D12 (io), D13 (io), GND (power), GND@1 GND@2 (power), GND@2 GND@3, GND@3 GND@1 (power), IOREF (out), MISO, MOSI, RESERVED, RESET /RESET (io), RESET_ICSP RST, SCK, SCL (io), SDA (io), VIN (power)

## ARDUINO_R3_ICSP_NODIM
designator M?
GateName_1: G$1; SymbolName_1: ARDUINOR3-ICSP; DeviceName: _NODIM; DeviceSetName: ARDUINO_R3_ICSP; LibraryName: adafruit; Package: ARDUINOR3_ICSP_NODIM
footprint ARDUINOR3_ICSP_NODIM
pins: 3V (power), 5V (power), 5V_ICSP 5V@1, A0 (io), A1 (io), A2 (io), A3 (io), A4 A4/SDA (io), A5 A5/SCL (io), AREF (io), D0 (io), D1 (io), D2 (io), D3 (io), D4 (io), D5 (io), D6 (io), D7 (io), D8 (io), D9 (io), D10 (io), D11 (io), D12 (io), D13 (io), GND (power), GND@1 GND@2 (power), GND@2 GND@3, GND@3 GND@1 (power), IOREF (out), MISO, MOSI, RESERVED, RESET /RESET (io), RESET_ICSP RST, SCK, SCL (io), SDA (io), VIN (power)

## ARDUINO_R3_ICSPSMT
designator M?
GateName_1: G$1; SymbolName_1: ARDUINOR3-ICSP; DeviceName: SMT; DeviceSetName: ARDUINO_R3_ICSP; LibraryName: adafruit; Package: ARDUINOR3_ICSP_SMT
footprint ARDUINOR3_ICSP_SMT
pins: 3V (power), 5V (power), 5V_ICSP 5V@1, A0 (io), A1 (io), A2 (io), A3 (io), A4 A4/SDA (io), A5 A5/SCL (io), AREF (io), D0 (io), D1 (io), D2 (io), D3 (io), D4 (io), D5 (io), D6 (io), D7 (io), D8 (io), D9 (io), D10 (io), D11 (io), D12 (io), D13 (io), GND (power), GND@1 (power), GND@2 (power), GND@3, IOREF (out), MISO, MOSI, RESERVED, RESET /RESET (io), RESET_ICSP RST, SCK, SCL (io), SDA (io), VIN (power)

## ARDUINOMICRO
designator ?
GateName_1: G$1; SymbolName_1: ARDUINOMICRO; LibraryName: adafruit; DeviceSetName: ARDUINOMICRO; Package: ARDUINOMICRO
footprint ARDUINOMICRO
pins: P$1 12 (io), P$2 11 (io), P$3 10 (io), P$4 9 (io), P$5 8 (io), P$6 7 (io), P$7 6 (io), P$8 5 (io), P$9 4 (io), P$10 3 (io), P$11 2 (io), P$12 GND (io), P$13 R@1 (io), P$14 RX (io), P$15 TX (io), P$16 SS (io), P$17 MOSI (io), P$18 SCK (io), P$19 MISO (io), P$20 9V (io), P$21 GND@1 (io), P$22 R@2 (io), P$23 5V (io), P$24 NC@1 (io), P$25 NC@2 (io), P$26 A5 (io), P$27 A4 (io), P$28 A3 (io), P$29 A2 (io), P$30 A1 (io), P$31 A0 (io), P$32 AREF (io), P$33 3V (io), P$34 13 (io)

## ARDUINOR3-BPLACE
designator U?, comment This is a new object for the new Arduino R3 - with extra pins that you may want to use (such as IOref, and duplicated A4/A5  (value not drawn)
GateName_1: G$1; DeviceName: -BPLACE; SymbolName_1: ARDUINOR3; LibraryName: adafruit; DeviceSetName: ARDUINOR3; Package: ARDUINOR3-BPLACE
footprint ARDUINOR3-BPLACE
pins: 3V (power), 5V (power), A0 (io), A1 (io), A2 (io), A3 (io), A4 A4/SDA (io), A5 A5/SCL (io), AREF (io), D0 (io), D1 (io), D2 (io), D3 (io), D4 (io), D5 (io), D6 (io), D7 (io), D8 (io), D9 (io), D10 (io), D11 (io), D12 (io), D13 (io), GND (power), GND1 (power), GND2 (power), IOREF (out), RESERVED, RESET /RESET (io), SCL (io), SDA (io), VIN (power)

## ARDUINOR3-DIMENSION
designator U?, comment This is a new object for the new Arduino R3 - with extra pins that you may want to use (such as IOref, and duplicated A4/A5  (value not drawn)
GateName_1: G$1; DeviceName: -DIMENSION; SymbolName_1: ARDUINOR3; LibraryName: adafruit; DeviceSetName: ARDUINOR3; Package: ARDUINOR3
footprint ARDUINOR3
pins: 3V (power), 5V (power), A0 (io), A1 (io), A2 (io), A3 (io), A4 A4/SDA (io), A5 A5/SCL (io), AREF (io), D0 (io), D1 (io), D2 (io), D3 (io), D4 (io), D5 (io), D6 (io), D7 (io), D8 (io), D9 (io), D10 (io), D11 (io), D12 (io), D13 (io), GND (power), GND1 (power), GND2 (power), IOREF (out), RESERVED, RESET /RESET (io), SCL (io), SDA (io), VIN (power)

## ARDUINOR3-NOIOREF-NOTEXT
designator Q?
GateName_1: G$1; SymbolName_1: ARDUINOR3-NOIOREF; DeviceName: -NOTEXT; LibraryName: adafruit; DeviceSetName: ARDUINOR3-NOIOREF; Package: ARDUINOR3-NOTEXT-NOIOREF
footprint ARDUINOR3-NOTEXT-NOIOREF
pins: 3V (power), 5V (power), A0 (io), A1 (io), A2 (io), A3 (io), A4 A4/SDA (io), A5 A5/SCL (io), AREF (io), D0 (io), D1 (io), D2 (io), D3 (io), D4 (io), D5 (io), D6 (io), D7 (io), D8 (io), D9 (io), D10 (io), D11 (io), D12 (io), D13 (io), GND (power), GND1 (power), GND2 (power), RESET /RESET (io), SCL (io), SDA (io), VIN (power)

## ARDUINOUNO
designator ?, comment Arduino Diecimila/Duemilanove   Make a shield with ease, this package has all the named pins as well as the two mounting drill holes and an outline of the USB and DC power connector. The outline is on the DIMENSION layer, so if your board house uses it they will cut the outline to match.    http://www.ladyada.net/library/pcb/eaglelibrary.html  (value not drawn)
GateName_1: G$1; DeviceName: UNO; SymbolName_1: ARDUINO; LibraryName: adafruit; DeviceSetName: ARDUINO; Package: ARDUINO
footprint ARDUINO
pins: 3V (power), 5V (power), A0 (io), A1 (io), A2 (io), A3 (io), A4 (io), A5 (io), AREF (io), D0 (io), D1 (io), D2 (io), D3 (io), D4 (io), D5 (io), D6 (io), D7 (io), D8 (io), D9 (io), D10 (io), D11 (io), D12 (io), D13 (io), GND (power), GND1 (power), GND2 (power), RESET /RESET (io), VIN (power)

## AT42QT1070-SSU
designator IC?, comment QTouch 5-channel standalone sensor IC AT42QT1070 in standalone mode has 5 inputs (guard + 4 key) and open drain outputs. 1.8V-5.5V power.  (value not drawn)
GateName_1: G$1; DeviceName: -SSU; SymbolName_1: AT42QT1070; LibraryName: adafruit; DeviceSetName: AT42QT1070; Package: SO14
footprint SO14
pins: 1 VDD (power), 2 MODE (in), 3 G_OUT (oc), 4 !RST (in), 5 OUT4 (oc), 6 OUT3 (oc), 7 OUT2 (oc), 8 OUT1 (oc), 9 IN4 (in), 10 IN3 (in), 11 IN2 (in), 12 IN1 (in), 13 G_IN (in), 14 VSS (power)

## AT45DB-S
designator IC?
GateName_1: G$1; SymbolName_1: AT45DBXXX; DeviceName: -S; DeviceSetName: AT45DB; LibraryName: adafruit; Package: SOIC8_208MIL
footprint SOIC8_208MIL
pins: 1 SI (in), 2 SCK (in), 3 /RST (in), 4 /CS (in), 5 /WP (in), 6 VCC (power), 7 GND (power), 8 SO (out)

## AT90USB162A
designator IC?, comment MICROCONTROLLER   8 Kbytes FLASH   1 kbytes SRAM   512 bytes EEPROM   USART   6-channel 10 bit ADC   2-channel 8 bit ADC
GateName_1: G$1; SymbolName_1: AT90USB162; DeviceName: A; LibraryName: adafruit; DeviceSetName: AT90USB162; Package: TQFP32-08
footprint TQFP32-08
pins: 1 XTAL1 (io), 2 XTAL2 (io), 3 GND (io), 4 VCC (io), 5 PC2 (io), 6 PD0(INT0/OC0B) (io), 7 PD1(INT1/AIN0) (io), 8 PD2(INT2/AIN1/RXD1) (io), 9 PD3(INT3/TXD1) (io), 10 PD4(XCK/T0) (io), 11 PD5(XCK) (io), 12 PD6(INT6/RTS) (io), 13 PD7(INT7/HWB/CTS/T0) (io), 14 PB0(SS) (io), 15 PB1(SCK) (io), 16 PB2(PDI/MISO) (io), 17 PB3(PDO/MISO) (io), 18 PB4(T1) (io), 19 PB5 (io), 20 PB6 (io), 21 PB7(OC0A/OC1C) (io), 22 PC7(ICP1/INT4) (io), 23 PC6(OC1A) (io), 24 PC1(/RESET) (io), 25 PC5(OC1B) (io), 26 PC4 (io), 27 UCAP (io), 28 UGND (io), 29 D+ (io), 30 D- (io), 31 UVCC (io), 32 AVCC (io)

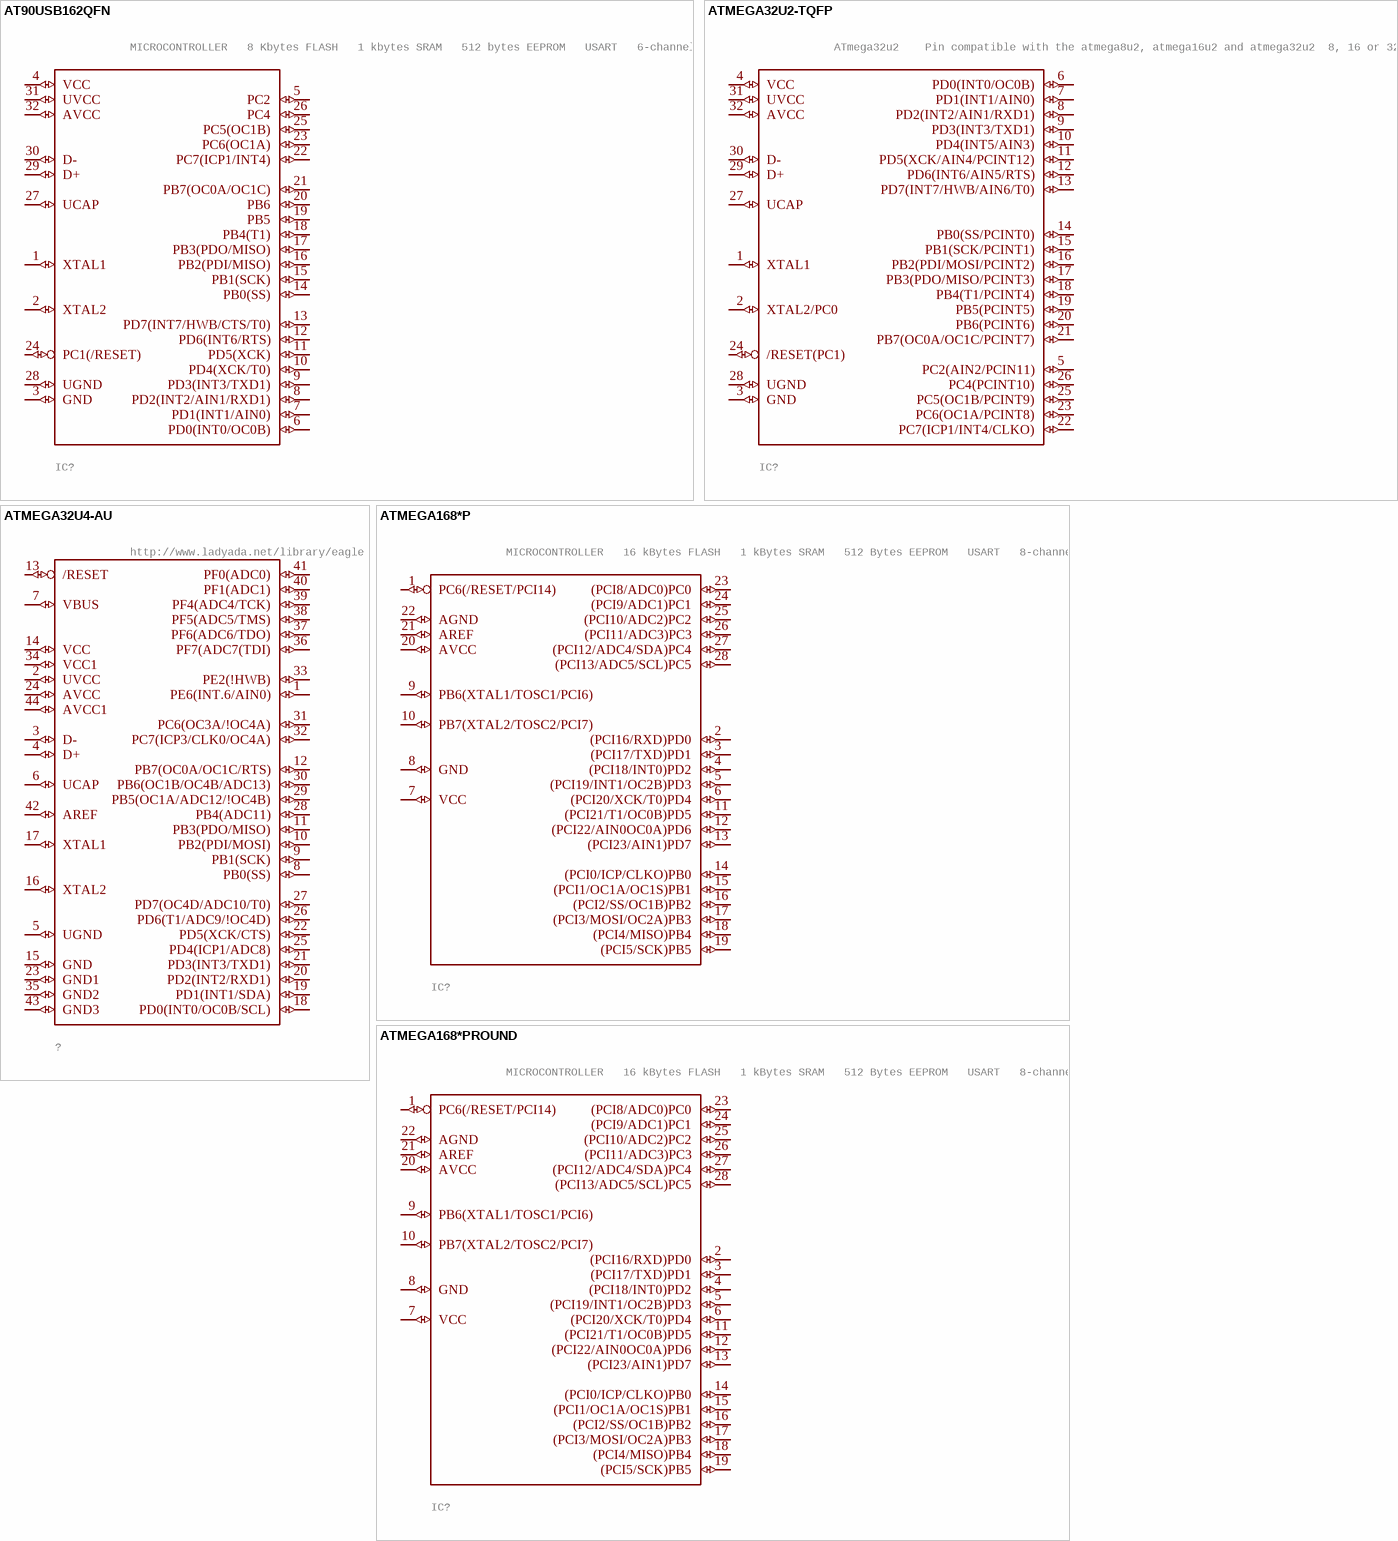
[diagram p7: symbols AT90USB162QFN to ATMEGA168*PROUND]

## AT90USB162QFN
designator IC?, comment MICROCONTROLLER   8 Kbytes FLASH   1 kbytes SRAM   512 bytes EEPROM   USART   6-channel 10 bit ADC   2-channel 8 bit ADC
GateName_1: G$1; SymbolName_1: AT90USB162; DeviceName: QFN; LibraryName: adafruit; DeviceSetName: AT90USB162; Package: MLF32
footprint MLF32
pins: 1 XTAL1 (io), 2 XTAL2 (io), 3 GND (io), 4 VCC (io), 5 PC2 (io), 6 PD0(INT0/OC0B) (io), 7 PD1(INT1/AIN0) (io), 8 PD2(INT2/AIN1/RXD1) (io), 9 PD3(INT3/TXD1) (io), 10 PD4(XCK/T0) (io), 11 PD5(XCK) (io), 12 PD6(INT6/RTS) (io), 13 PD7(INT7/HWB/CTS/T0) (io), 14 PB0(SS) (io), 15 PB1(SCK) (io), 16 PB2(PDI/MISO) (io), 17 PB3(PDO/MISO) (io), 18 PB4(T1) (io), 19 PB5 (io), 20 PB6 (io), 21 PB7(OC0A/OC1C) (io), 22 PC7(ICP1/INT4) (io), 23 PC6(OC1A) (io), 24 PC1(/RESET) (io), 25 PC5(OC1B) (io), 26 PC4 (io), 27 UCAP (io), 28 UGND (io), 29 D+ (io), 30 D- (io), 31 UVCC (io), 32 AVCC (io)

## ATMEGA32U2-TQFP
designator IC?, comment ATmega32u2    Pin compatible with the atmega8u2, atmega16u2 and atmega32u2  8, 16 or 32 K flash, 1K RAM, 512b EEPROM  8 bit and 16 bit timer (5 PWM total)  UART, SPI (no I2C!)  USB with 4 endpoints, LUFA compatible  22 I/O lines, analog comparator (no ADC!)  Comes with DFU bootloader burned in!
GateName_1: G$1; DeviceName: -TQFP; SymbolName_1: ATMEGA32U2; LibraryName: adafruit; DeviceSetName: ATMEGA32U2; Package: TQFP32-08
footprint TQFP32-08
pins: 1 XTAL1 (io), 2 XTAL2/PC0 (io), 3 GND (io), 4 VCC (io), 5 PC2(AIN2/PCIN11) (io), 6 PD0(INT0/OC0B) (io), 7 PD1(INT1/AIN0) (io), 8 PD2(INT2/AIN1/RXD1) (io), 9 PD3(INT3/TXD1) (io), 10 PD4(INT5/AIN3) (io), 11 PD5(XCK/AIN4/PCINT12) (io), 12 PD6(INT6/AIN5/RTS) (io), 13 PD7(INT7/HWB/AIN6/T0) (io), 14 PB0(SS/PCINT0) (io), 15 PB1(SCK/PCINT1) (io), 16 PB2(PDI/MOSI/PCINT2) (io), 17 PB3(PDO/MISO/PCINT3) (io), 18 PB4(T1/PCINT4) (io), 19 PB5(PCINT5) (io), 20 PB6(PCINT6) (io), 21 PB7(OC0A/OC1C/PCINT7) (io), 22 PC7(ICP1/INT4/CLKO) (io), 23 PC6(OC1A/PCINT8) (io), 24 /RESET(PC1) (io), 25 PC5(OC1B/PCINT9) (io), 26 PC4(PCINT10) (io), 27 UCAP (io), 28 UGND (io), 29 D+ (io), 30 D- (io), 31 UVCC (io), 32 AVCC (io)

## ATMEGA32U4-AU
designator ?, comment http://www.ladyada.net/library/eagle
GateName_1: G$1; SymbolName_1: ATMEGA32U4; DeviceName: -AU; LibraryName: adafruit; DeviceSetName: ATMEGA32U4; Package: TQFP44
footprint TQFP44
pins: 1 PE6(INT.6/AIN0) (io), 2 UVCC (io), 3 D- (io), 4 D+ (io), 5 UGND (io), 6 UCAP (io), 7 VBUS (io), 8 PB0(SS) (io), 9 PB1(SCK) (io), 10 PB2(PDI/MOSI) (io), 11 PB3(PDO/MISO) (io), 12 PB7(OC0A/OC1C/RTS) (io), 13 /RESET (io), 14 VCC (io), 15 GND (io), 16 XTAL2 (io), 17 XTAL1 (io), 18 PD0(INT0/OC0B/SCL) (io), 19 PD1(INT1/SDA) (io), 20 PD2(INT2/RXD1) (io), 21 PD3(INT3/TXD1) (io), 22 PD5(XCK/CTS) (io), 23 GND1 (io), 24 AVCC (io), 25 PD4(ICP1/ADC8) (io), 26 PD6(T1/ADC9/!OC4D) (io), 27 PD7(OC4D/ADC10/T0) (io), 28 PB4(ADC11) (io), 29 PB5(OC1A/ADC12/!OC4B) (io), 30 PB6(OC1B/OC4B/ADC13) (io), 31 PC6(OC3A/!OC4A) (io), 32 PC7(ICP3/CLK0/OC4A) (io), 33 PE2(!HWB) (io), 34 VCC1 (io), 35 GND2 (io), 36 PF7(ADC7(TDI) (io), 37 PF6(ADC6/TDO) (io), 38 PF5(ADC5/TMS) (io), 39 PF4(ADC4/TCK) (io), 40 PF1(ADC1) (io), 41 PF0(ADC0) (io), 42 AREF (io), 43 GND3 (io), 44 AVCC1 (io)

## ATMEGA168*P
designator IC?, comment MICROCONTROLLER   16 kBytes FLASH   1 kBytes SRAM   512 Bytes EEPROM   USART   8-channel 10 bit ADC
GateName_1: G$1; SymbolName_1: MEGA168; DeviceSetName: ATMEGA168*P; LibraryName: adafruit; Package: DIL28-3
footprint DIL28-3
pins: 1 PC6(/RESET/PCI14) (io), 2 (PCI16/RXD)PD0 (io), 3 (PCI17/TXD)PD1 (io), 4 (PCI18/INT0)PD2 (io), 5 (PCI19/INT1/OC2B)PD3 (io), 6 (PCI20/XCK/T0)PD4 (io), 7 VCC (io), 8 GND (io), 9 PB6(XTAL1/TOSC1/PCI6) (io), 10 PB7(XTAL2/TOSC2/PCI7) (io), 11 (PCI21/T1/OC0B)PD5 (io), 12 (PCI22/AIN0OC0A)PD6 (io), 13 (PCI23/AIN1)PD7 (io), 14 (PCI0/ICP/CLKO)PB0 (io), 15 (PCI1/OC1A/OC1S)PB1 (io), 16 (PCI2/SS/OC1B)PB2 (io), 17 (PCI3/MOSI/OC2A)PB3 (io), 18 (PCI4/MISO)PB4 (io), 19 (PCI5/SCK)PB5 (io), 20 AVCC (io), 21 AREF (io), 22 AGND (io), 23 (PCI8/ADC0)PC0 (io), 24 (PCI9/ADC1)PC1 (io), 25 (PCI10/ADC2)PC2 (io), 26 (PCI11/ADC3)PC3 (io), 27 (PCI12/ADC4/SDA)PC4 (io), 28 (PCI13/ADC5/SCL)PC5 (io)

## ATMEGA168*PROUND
designator IC?, comment MICROCONTROLLER   16 kBytes FLASH   1 kBytes SRAM   512 Bytes EEPROM   USART   8-channel 10 bit ADC
GateName_1: G$1; SymbolName_1: MEGA168; DeviceName: ROUND; DeviceSetName: ATMEGA168*P; LibraryName: adafruit; Package: DIL28-3-ROUND
footprint DIL28-3-ROUND
pins: 1 PC6(/RESET/PCI14) (io), 2 (PCI16/RXD)PD0 (io), 3 (PCI17/TXD)PD1 (io), 4 (PCI18/INT0)PD2 (io), 5 (PCI19/INT1/OC2B)PD3 (io), 6 (PCI20/XCK/T0)PD4 (io), 7 VCC (io), 8 GND (io), 9 PB6(XTAL1/TOSC1/PCI6) (io), 10 PB7(XTAL2/TOSC2/PCI7) (io), 11 (PCI21/T1/OC0B)PD5 (io), 12 (PCI22/AIN0OC0A)PD6 (io), 13 (PCI23/AIN1)PD7 (io), 14 (PCI0/ICP/CLKO)PB0 (io), 15 (PCI1/OC1A/OC1S)PB1 (io), 16 (PCI2/SS/OC1B)PB2 (io), 17 (PCI3/MOSI/OC2A)PB3 (io), 18 (PCI4/MISO)PB4 (io), 19 (PCI5/SCK)PB5 (io), 20 AVCC (io), 21 AREF (io), 22 AGND (io), 23 (PCI8/ADC0)PC0 (io), 24 (PCI9/ADC1)PC1 (io), 25 (PCI10/ADC2)PC2 (io), 26 (PCI11/ADC3)PC3 (io), 27 (PCI12/ADC4/SDA)PC4 (io), 28 (PCI13/ADC5/SCL)PC5 (io)

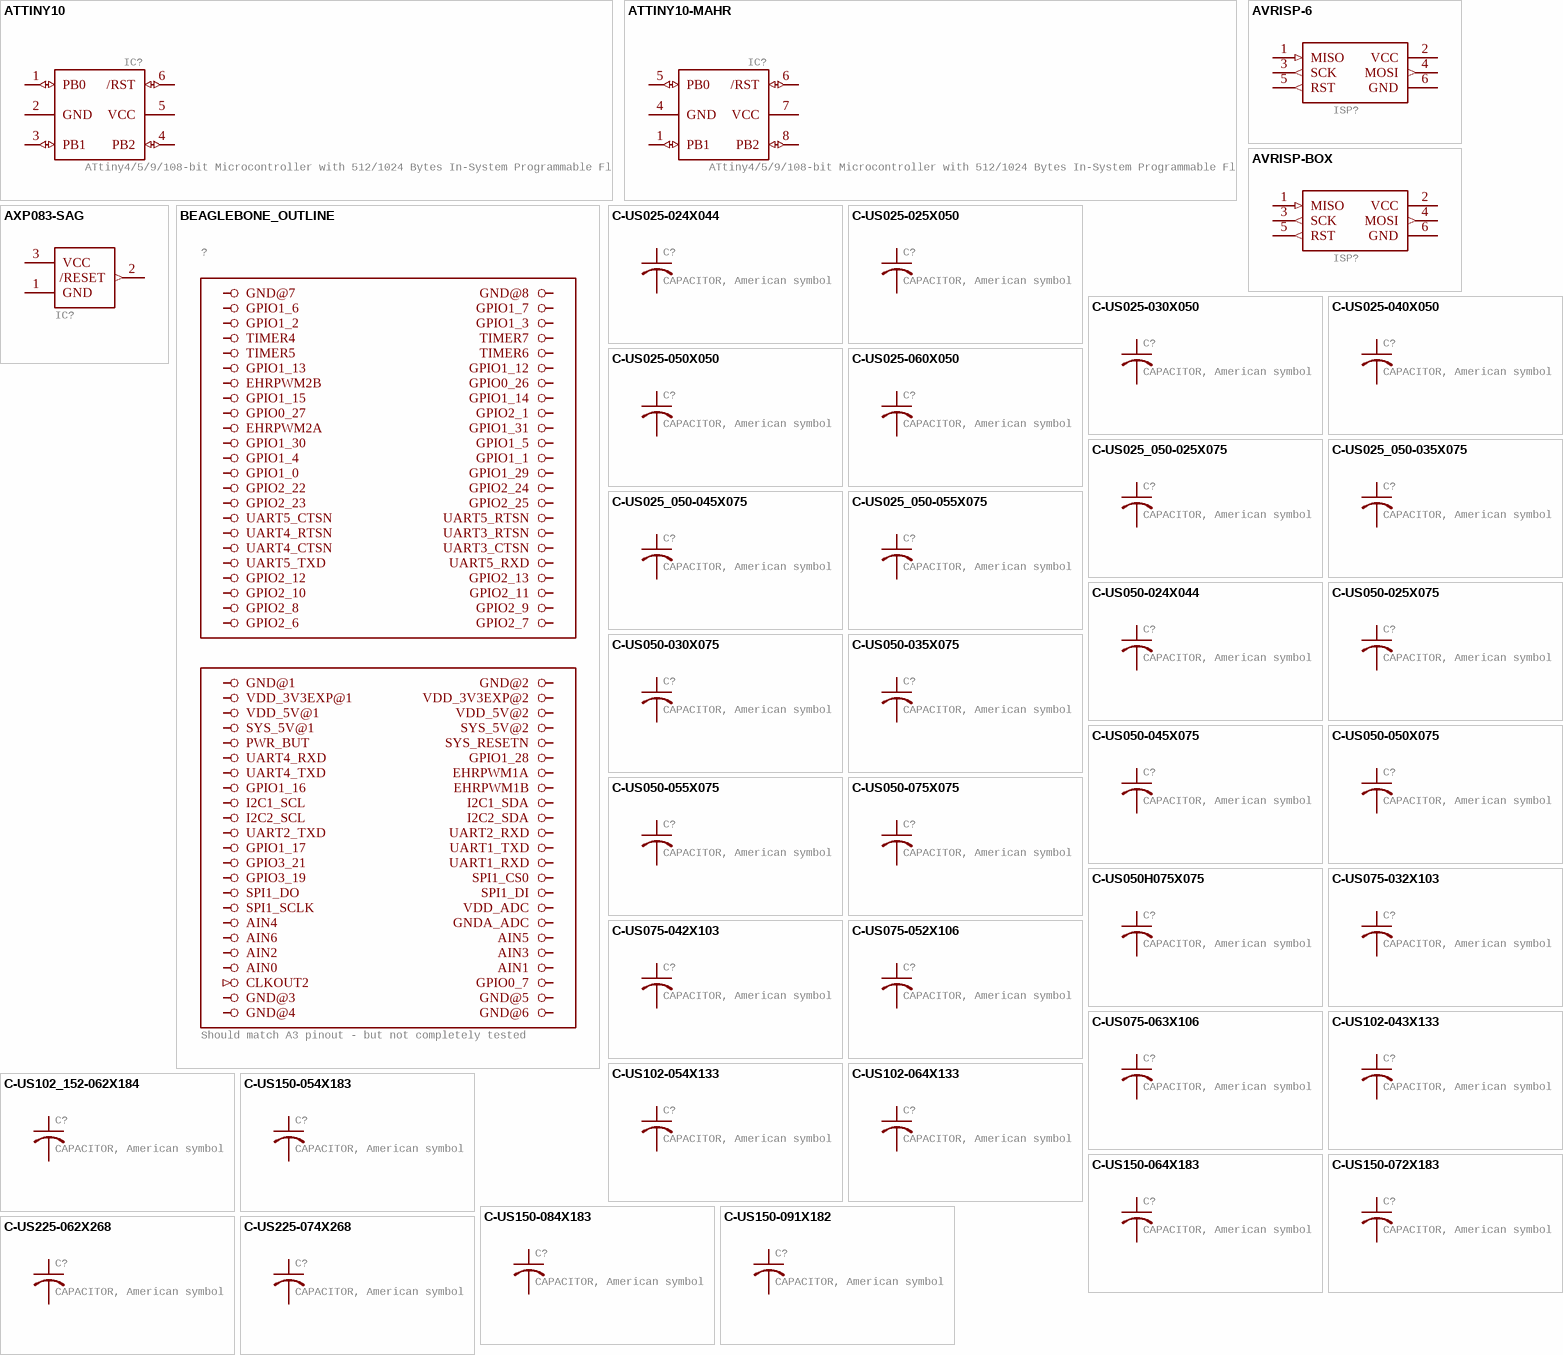
[diagram p8: symbols ATTINY10 to C-US225-074X268]

## ATTINY10
designator IC?, comment ATtiny4/5/9/108-bit Microcontroller with 512/1024 Bytes In-System Programmable Flash
GateName_1: G$1; SymbolName_1: ATTINY10; LibraryName: adafruit; DeviceSetName: ATTINY10; Package: SOT23-6
footprint SOT23-6
pins: 1 PB0 (io), 2 GND (power), 3 PB1 (io), 4 PB2 (io), 5 VCC (power), 6 /RST (io)

## ATTINY10-MAHR
designator IC?, comment ATtiny4/5/9/108-bit Microcontroller with 512/1024 Bytes In-System Programmable Flash
GateName_1: G$1; SymbolName_1: ATTINY10; DeviceName: -MAHR; LibraryName: adafruit; DeviceSetName: ATTINY10; Package: UDFN-8
footprint UDFN-8
pins: 1 PB1 (io), 4 GND (power), 5 PB0 (io), 6 /RST (io), 7 VCC (power), 8 PB2 (io)

## AVRISP-6
designator ISP?, comment AVR ISP HEADER Standard 6 pin header for AVR programming  (value not drawn)
GateName_1: G$1; SymbolName_1: AVRISP; DeviceName: -6; LibraryName: adafruit; DeviceSetName: AVRISP; Package: AVRISP
footprint AVRISP
pins: 1 MISO (in), 2 VCC (power), 3 SCK (out), 4 MOSI (out), 5 RST (out), 6 GND (power)

## AVRISP-BOX
designator ISP?, comment AVR ISP HEADER Standard 6 pin header for AVR programming  (value not drawn)
GateName_1: G$1; SymbolName_1: AVRISP; DeviceName: -BOX; LibraryName: adafruit; DeviceSetName: AVRISP; Package: AVRISP-BOX
footprint AVRISP-BOX
pins: 1 MISO (in), 2 VCC (power), 3 SCK (out), 4 MOSI (out), 5 RST (out), 6 GND (power)

## AXP083-SAG
designator IC?
GateName_1: G$1; SymbolName_1: RESET_SUPERVISOR; DeviceName: -SAG; DeviceSetName: AXP083; LibraryName: adafruit; Package: SOT23
footprint SOT23
pins: 1 GND (power), 2 /RESET (out), 3 VCC (power)

## BEAGLEBONE_OUTLINE
designator ?, comment Should match A3 pinout - but not completely tested
GateName_1: G$1; SymbolName_1: BEAGLEBONE-1; DeviceSetName: BEAGLEBONE_OUTLINE; LibraryName: adafruit; Package: BEAGLEBONE_SHIELD
footprint BEAGLEBONE_SHIELD
pins: 1 GND@7 (power), 2 GND@8 (power), 3 GPIO1_6, 4 GPIO1_7, 5 GPIO1_2, 6 GPIO1_3, 7 TIMER4, 8 TIMER7, 9 TIMER5, 10 TIMER6, 11 GPIO1_13, 12 GPIO1_12, 13 EHRPWM2B, 14 GPIO0_26, 15 GPIO1_15, 16 GPIO1_14, 17 GPIO0_27, 18 GPIO2_1, 19 EHRPWM2A, 20 GPIO1_31, 21 GPIO1_30, 22 GPIO1_5, 23 GPIO1_4, 24 GPIO1_1, 25 GPIO1_0, 26 GPIO1_29, 27 GPIO2_22, 28 GPIO2_24, 29 GPIO2_23, 30 GPIO2_25, 31 UART5_CTSN, 32 UART5_RTSN, 33 UART4_RTSN, 34 UART3_RTSN, 35 UART4_CTSN, 36 UART3_CTSN, 37 UART5_TXD, 38 UART5_RXD, 39 GPIO2_12, 40 GPIO2_13, 41 GPIO2_10, 42 GPIO2_11, 43 GPIO2_8, 44 GPIO2_9, 45 GPIO2_6, 46 GPIO2_7, 47 GND@1 (power), 48 GND@2 (power), 49 VDD_3V3EXP@1 (power), 50 VDD_3V3EXP@2 (power), 51 VDD_5V@1 (power), 52 VDD_5V@2 (power), 53 SYS_5V@1 (power), 54 SYS_5V@2, 55 PWR_BUT, 56 SYS_RESETN, 57 UART4_RXD, 58 GPIO1_28, 59 UART4_TXD, 60 EHRPWM1A, 61 GPIO1_16, 62 EHRPWM1B, 63 I2C1_SCL, 64 I2C1_SDA, 65 I2C2_SCL, 66 I2C2_SDA, 67 UART2_TXD, 68 UART2_RXD, 69 GPIO1_17, 70 UART1_TXD, 71 GPIO3_21, 72 UART1_RXD, 73 GPIO3_19, 74 SPI1_CS0, 75 SPI1_DO, 76 SPI1_DI, 77 SPI1_SCLK, 78 VDD_ADC, 79 AIN4, 80 GNDA_ADC, 81 AIN6, 82 AIN5, 83 AIN2, 84 AIN3, 85 AIN0 (power), 86 AIN1, 87 CLKOUT2 (in), 88 GPIO0_7, 89 GND@3 (power), 90 GND@5 (power), 91 GND@4 (power), 92 GND@6 (power)

## C-US025-024X044
designator C?, comment CAPACITOR, American symbol
GateName_1: G$1; SymbolName_1: C-US; DeviceName: 025-024X044; LibraryName: adafruit; DeviceSetName: C-US; Package: C025-024X044
footprint C025-024X044
pins: 1, 2

## C-US025-025X050
designator C?, comment CAPACITOR, American symbol
GateName_1: G$1; SymbolName_1: C-US; DeviceName: 025-025X050; LibraryName: adafruit; DeviceSetName: C-US; Package: C025-025X050
footprint C025-025X050
pins: 1, 2

## C-US025-030X050
designator C?, comment CAPACITOR, American symbol
GateName_1: G$1; SymbolName_1: C-US; DeviceName: 025-030X050; LibraryName: adafruit; DeviceSetName: C-US; Package: C025-030X050
footprint C025-030X050
pins: 1, 2

## C-US025-040X050
designator C?, comment CAPACITOR, American symbol
GateName_1: G$1; SymbolName_1: C-US; DeviceName: 025-040X050; LibraryName: adafruit; DeviceSetName: C-US; Package: C025-040X050
footprint C025-040X050
pins: 1, 2

## C-US025-050X050
designator C?, comment CAPACITOR, American symbol
GateName_1: G$1; SymbolName_1: C-US; DeviceName: 025-050X050; LibraryName: adafruit; DeviceSetName: C-US; Package: C025-050X050
footprint C025-050X050
pins: 1, 2

## C-US025-060X050
designator C?, comment CAPACITOR, American symbol
GateName_1: G$1; SymbolName_1: C-US; DeviceName: 025-060X050; LibraryName: adafruit; DeviceSetName: C-US; Package: C025-060X050
footprint C025-060X050
pins: 1, 2

## C-US025_050-025X075
designator C?, comment CAPACITOR, American symbol
GateName_1: G$1; SymbolName_1: C-US; DeviceName: 025_050-025X075; LibraryName: adafruit; DeviceSetName: C-US; Package: C025_050-025X075
footprint C025_050-025X075
pins: 1, 2

## C-US025_050-035X075
designator C?, comment CAPACITOR, American symbol
GateName_1: G$1; SymbolName_1: C-US; DeviceName: 025_050-035X075; LibraryName: adafruit; DeviceSetName: C-US; Package: C025_050-035X075
footprint C025_050-035X075
pins: 1, 2

## C-US025_050-045X075
designator C?, comment CAPACITOR, American symbol
GateName_1: G$1; SymbolName_1: C-US; DeviceName: 025_050-045X075; LibraryName: adafruit; DeviceSetName: C-US; Package: C025_050-045X075
footprint C025_050-045X075
pins: 1, 2

## C-US025_050-055X075
designator C?, comment CAPACITOR, American symbol
GateName_1: G$1; SymbolName_1: C-US; DeviceName: 025_050-055X075; LibraryName: adafruit; DeviceSetName: C-US; Package: C025_050-055X075
footprint C025_050-055X075
pins: 1, 2

## C-US050-024X044
designator C?, comment CAPACITOR, American symbol
GateName_1: G$1; SymbolName_1: C-US; DeviceName: 050-024X044; LibraryName: adafruit; DeviceSetName: C-US; Package: C050-024X044
footprint C050-024X044
pins: 1, 2

## C-US050-025X075
designator C?, comment CAPACITOR, American symbol
GateName_1: G$1; SymbolName_1: C-US; DeviceName: 050-025X075; LibraryName: adafruit; DeviceSetName: C-US; Package: C050-025X075
footprint C050-025X075
pins: 1, 2

## C-US050-030X075
designator C?, comment CAPACITOR, American symbol
GateName_1: G$1; SymbolName_1: C-US; DeviceName: 050-030X075; LibraryName: adafruit; DeviceSetName: C-US; Package: C050-030X075
footprint C050-030X075
pins: 1, 2

## C-US050-035X075
designator C?, comment CAPACITOR, American symbol
GateName_1: G$1; SymbolName_1: C-US; DeviceName: 050-035X075; LibraryName: adafruit; DeviceSetName: C-US; Package: C050-035X075
footprint C050-035X075
pins: 1, 2

## C-US050-045X075
designator C?, comment CAPACITOR, American symbol
GateName_1: G$1; SymbolName_1: C-US; DeviceName: 050-045X075; LibraryName: adafruit; DeviceSetName: C-US; Package: C050-045X075
footprint C050-045X075
pins: 1, 2

## C-US050-050X075
designator C?, comment CAPACITOR, American symbol
GateName_1: G$1; SymbolName_1: C-US; DeviceName: 050-050X075; LibraryName: adafruit; DeviceSetName: C-US; Package: C050-050X075
footprint C050-050X075
pins: 1, 2

## C-US050-055X075
designator C?, comment CAPACITOR, American symbol
GateName_1: G$1; SymbolName_1: C-US; DeviceName: 050-055X075; LibraryName: adafruit; DeviceSetName: C-US; Package: C050-055X075
footprint C050-055X075
pins: 1, 2

## C-US050-075X075
designator C?, comment CAPACITOR, American symbol
GateName_1: G$1; SymbolName_1: C-US; DeviceName: 050-075X075; LibraryName: adafruit; DeviceSetName: C-US; Package: C050-075X075
footprint C050-075X075
pins: 1, 2

## C-US050H075X075
designator C?, comment CAPACITOR, American symbol
GateName_1: G$1; SymbolName_1: C-US; DeviceName: 050H075X075; LibraryName: adafruit; DeviceSetName: C-US; Package: C050H075X075
footprint C050H075X075
pins: 1, 2

## C-US075-032X103
designator C?, comment CAPACITOR, American symbol
GateName_1: G$1; SymbolName_1: C-US; DeviceName: 075-032X103; LibraryName: adafruit; DeviceSetName: C-US; Package: C075-032X103
footprint C075-032X103
pins: 1, 2

## C-US075-042X103
designator C?, comment CAPACITOR, American symbol
GateName_1: G$1; SymbolName_1: C-US; DeviceName: 075-042X103; LibraryName: adafruit; DeviceSetName: C-US; Package: C075-042X103
footprint C075-042X103
pins: 1, 2

## C-US075-052X106
designator C?, comment CAPACITOR, American symbol
GateName_1: G$1; SymbolName_1: C-US; DeviceName: 075-052X106; LibraryName: adafruit; DeviceSetName: C-US; Package: C075-052X106
footprint C075-052X106
pins: 1, 2

## C-US075-063X106
designator C?, comment CAPACITOR, American symbol
GateName_1: G$1; SymbolName_1: C-US; DeviceName: 075-063X106; LibraryName: adafruit; DeviceSetName: C-US; Package: C075-063X106
footprint C075-063X106
pins: 1, 2

## C-US102-043X133
designator C?, comment CAPACITOR, American symbol
GateName_1: G$1; SymbolName_1: C-US; DeviceName: 102-043X133; LibraryName: adafruit; DeviceSetName: C-US; Package: C102-043X133
footprint C102-043X133
pins: 1, 2

## C-US102-054X133
designator C?, comment CAPACITOR, American symbol
GateName_1: G$1; SymbolName_1: C-US; DeviceName: 102-054X133; LibraryName: adafruit; DeviceSetName: C-US; Package: C102-054X133
footprint C102-054X133
pins: 1, 2